# Altium schematic symbol library dungvh03-CERN_Logic.SchLib: 486 symbols (part 24 of 54)
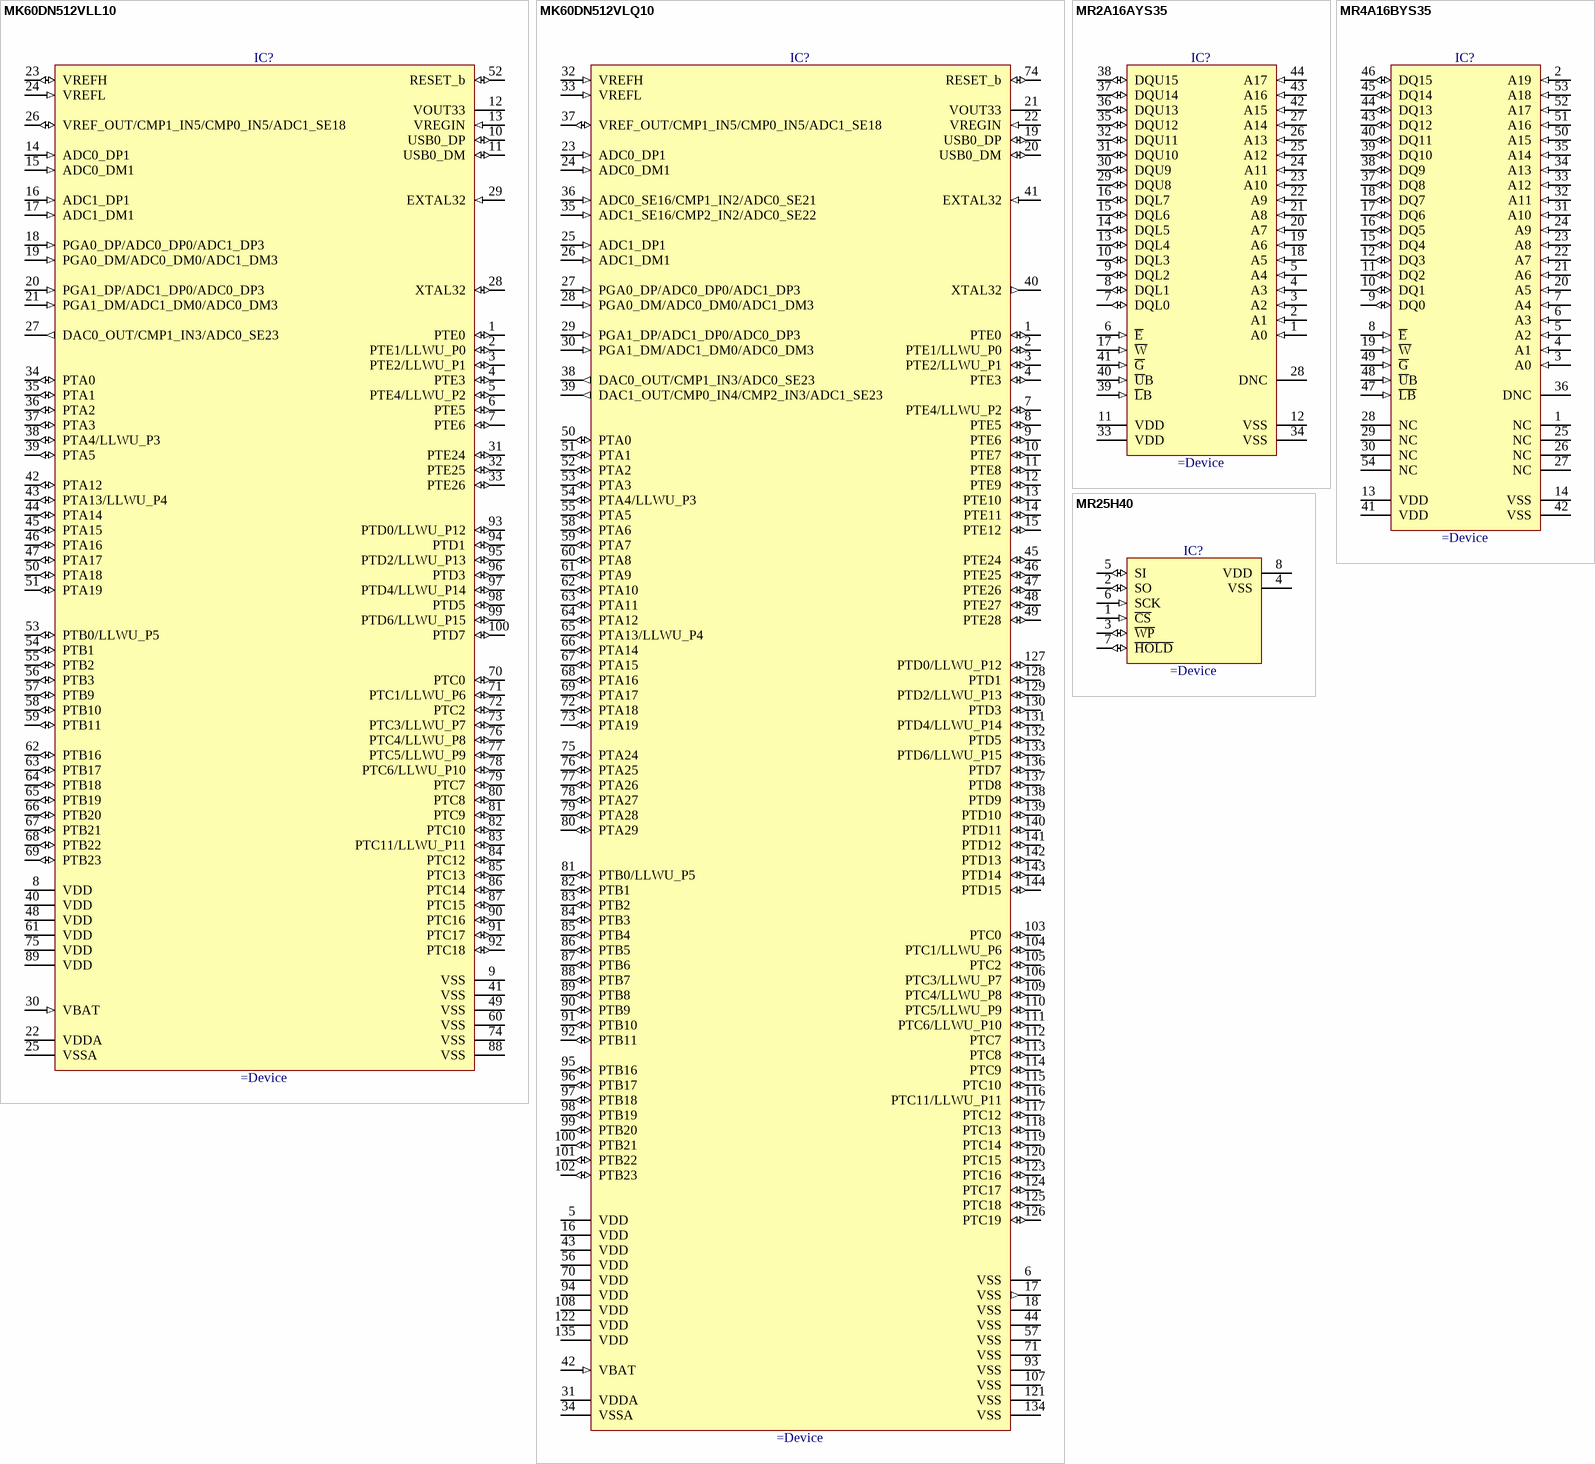
[diagram p284: symbols MK60DN512VLL10 to MR25H40]

## MR4A16BYS35
designator IC?
16Mb (1M × 16) MRAM Memory, Fast 35ns R/W Cycle, Commercial Grade
pins: 1 NC "No Connection", 2 A19 (in) "Address Input", 3 A0 (in) "Address Input", 4 A1 (in) "Address Input", 5 A2 (in) "Address Input", 6 A3 (in) "Address Input", 7 A4 (in) "Address Input", 8 ~{E} (in) "Chip Enable", 9 DQ0 (io) "Data I/O", 10 DQ1 (io) "Data I/O", 11 DQ2 (io) "Data I/O", 12 DQ3 (io) "Data I/O", 13 VDD (power) "Power Supply", 14 VSS (power) "Ground", 15 DQ4 (io) "Data I/O", 16 DQ5 (io) "Data I/O", 17 DQ6 (io) "Data I/O", 18 DQ7 (io) "Data I/O", 19 ~{W} (in) "Write Enable", 20 A5 (in) "Address Input", 21 A6 (in) "Address Input", 22 A7 (in) "Address Input", 23 A8 (in) "Address Input", 24 A9 (in) "Address Input", 25 NC "No Connection", 26 NC "No Connection", 27 NC "No Connection", 28 NC "No Connection", 29 NC "No Connection", 30 NC "No Connection", 31 A10 (in) "Address Input", 32 A11 (in) "Address Input", 33 A12 (in) "Address Input", 34 A13 (in) "Address Input", 35 A14 (in) "Address Input", 36 DNC "Do Not Connect", 37 DQ8 (io) "Data I/O", 38 DQ9 (io) "Data I/O", 39 DQ10 (io) "Data I/O", 40 DQ11 (io) "Data I/O", 41 VDD (power) "Power Supply", 42 VSS (power) "Ground", 43 DQ12 (io) "Data I/O", 44 DQ13 (io) "Data I/O", 45 DQ14 (io) "Data I/O", 46 DQ15 (io) "Data I/O", 47 ~{LB} (in) "Lower Byte Enable", 48 ~{U}B (in) "Upper Byte Enable", 49 ~{G} (in) "Output Enable", 50 A15 (in) "Address Input", 51 A16 (in) "Address Input", 52 A17 (in) "Address Input", 53 A18 (in) "Address Input", 54 NC "No Connection"

## MR25H40
designator IC?
40MHz/25ns tSCK (Industrial, Extended and AEC-Q100 Grade 1 Temp Range) 4Mb SPI Interface MRAM
pins: 1 ~{CS} (in), 2 SO (io), 3 ~{WP} (io), 4 VSS (power), 5 SI (io), 6 SCK (in), 7 ~{HOLD} (io), 8 VDD (power)

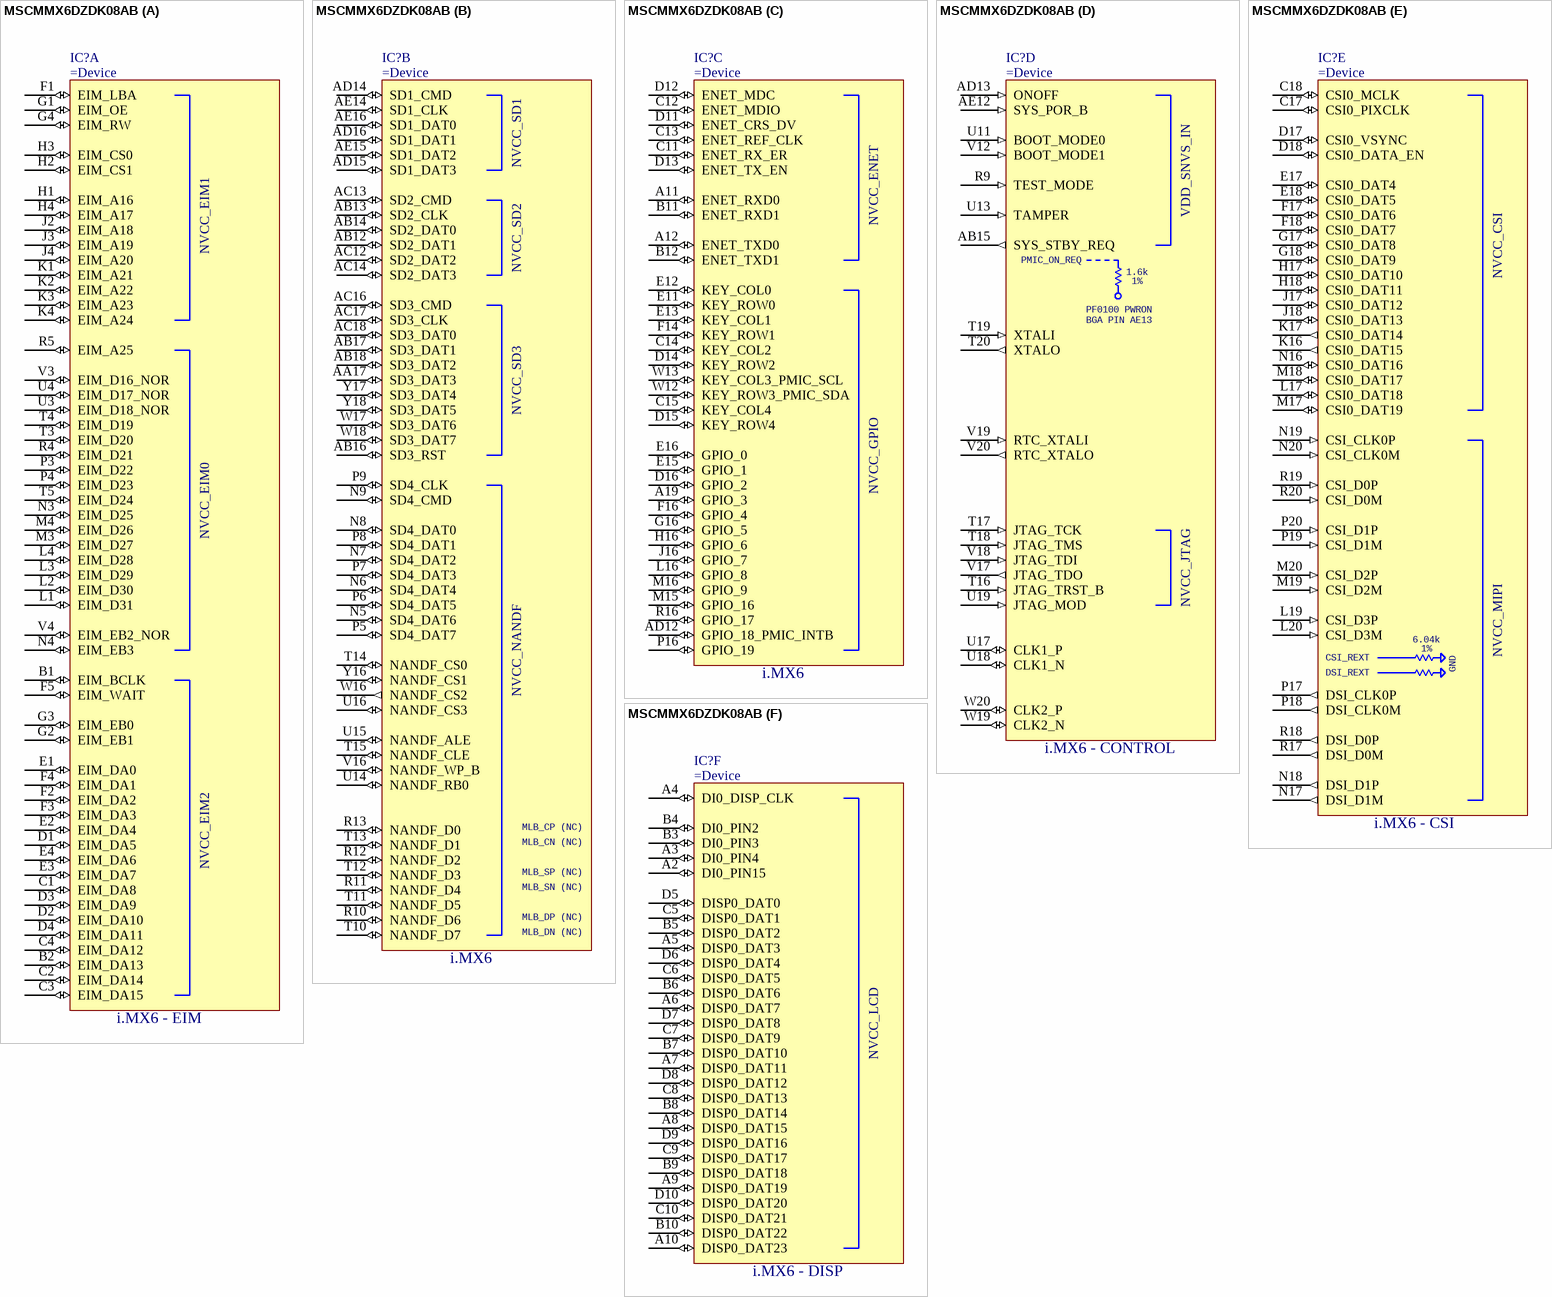
[diagram p102: symbol MSCMMX6DZDK08AB]

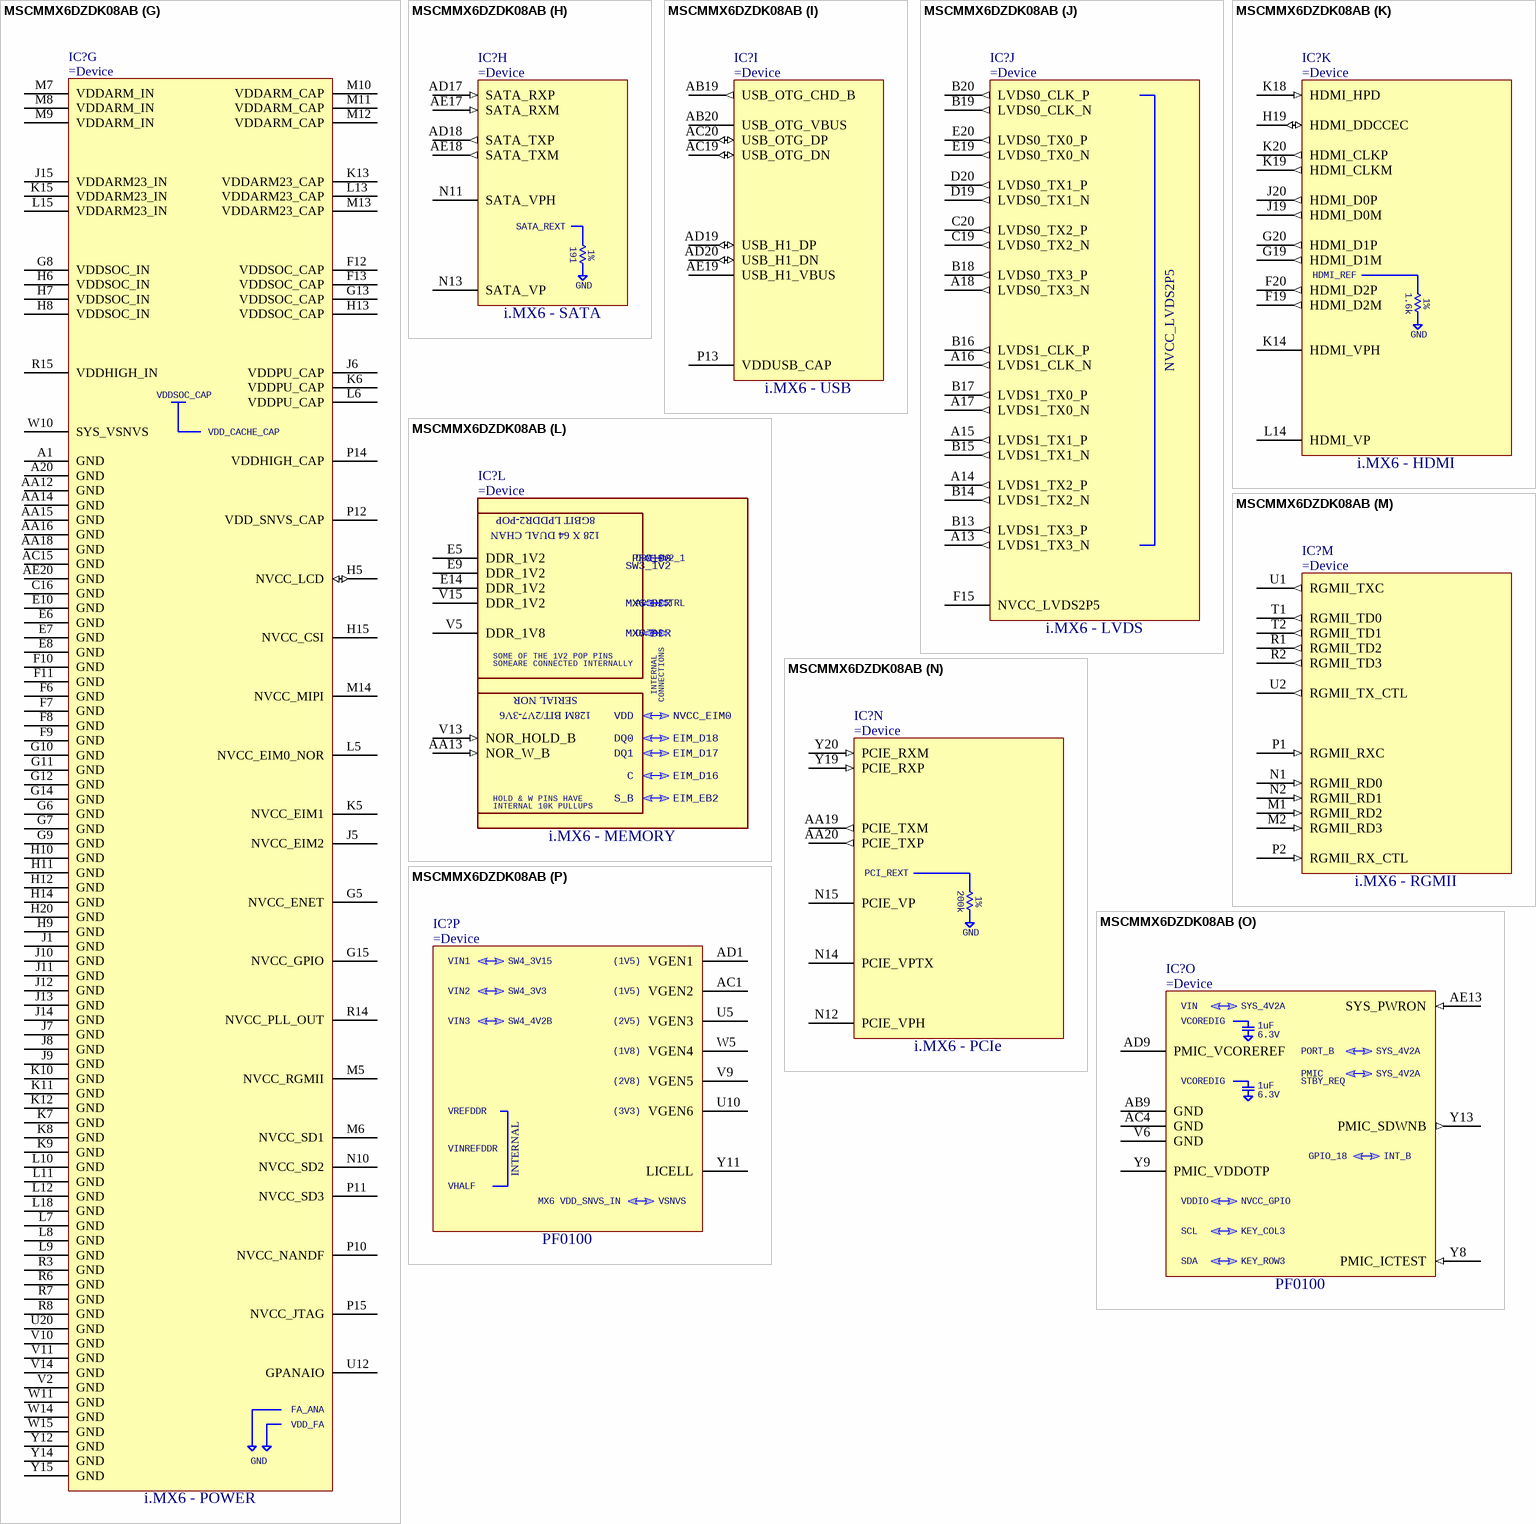
[diagram p103: symbol MSCMMX6DZDK08AB]

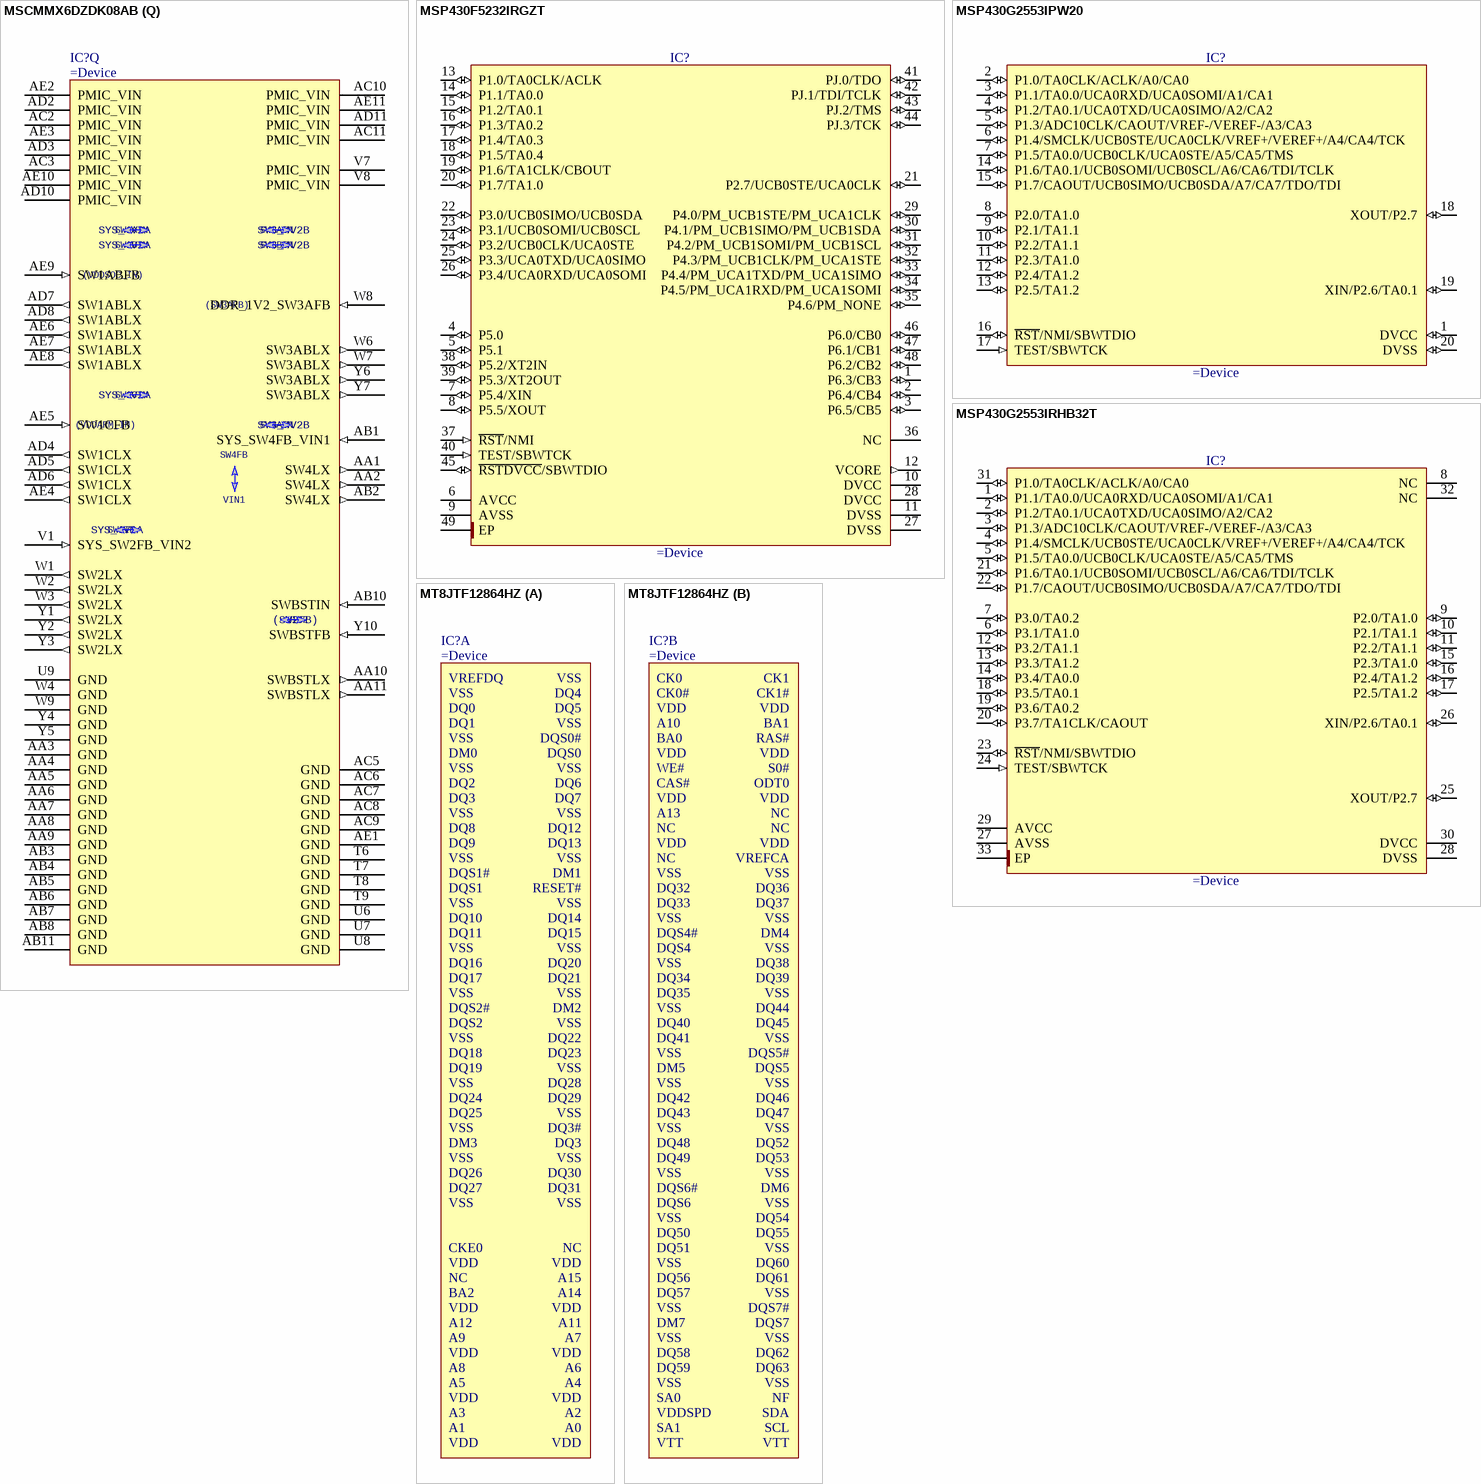
[diagram p104: symbols MSCMMX6DZDK08AB to MT8JTF12864HZ]

## MSCMMX6DZDK08AB
designator IC?
SCM-i.MX 6Dual processors Based on ARM® Cortex®-A9 MPCore Platform (LPDDR2 - PoP Footprint Version)
part A pins: B1 EIM_BCLK (io), B2 EIM_DA13 (io), C1 EIM_DA8 (io), C2 EIM_DA14 (io), C3 EIM_DA15 (io), C4 EIM_DA12 (io), D1 EIM_DA5 (io), D2 EIM_DA10 (io), D3 EIM_DA9 (io), D4 EIM_DA11 (io), E1 EIM_DA0 (io), E2 EIM_DA4 (io), E3 EIM_DA7 (io), E4 EIM_DA6 (io), F1 EIM_LBA (io), F2 EIM_DA2 (io), F3 EIM_DA3 (io), F4 EIM_DA1 (io), F5 EIM_WAIT (io), G1 EIM_OE (io), G2 EIM_EB1 (io), G3 EIM_EB0 (io), G4 EIM_RW (io), H1 EIM_A16 (io), H2 EIM_CS1 (io), H3 EIM_CS0 (io), H4 EIM_A17 (io), J2 EIM_A18 (io), J3 EIM_A19 (io), J4 EIM_A20 (io), K1 EIM_A21 (io), K2 EIM_A22 (io), K3 EIM_A23 (io), K4 EIM_A24 (io), L1 EIM_D31 (io), L2 EIM_D30 (io), L3 EIM_D29 (io), L4 EIM_D28 (io), M3 EIM_D27 (io), M4 EIM_D26 (io), N3 EIM_D25 (io), N4 EIM_EB3 (io), P3 EIM_D22 (io), P4 EIM_D23 (io), R4 EIM_D21 (io), R5 EIM_A25 (io), T3 EIM_D20 (io), T4 EIM_D19 (io), T5 EIM_D24 (io), U3 EIM_D18_NOR (io), U4 EIM_D17_NOR (io), V3 EIM_D16_NOR (io), V4 EIM_EB2_NOR (io)
part B pins: AA17 SD3_DAT3 (io), AB12 SD2_DAT1 (io), AB13 SD2_CLK (io), AB14 SD2_DAT0 (io), AB16 SD3_RST (io), AB17 SD3_DAT1 (io), AB18 SD3_DAT2 (io), AC12 SD2_DAT2 (io), AC13 SD2_CMD (io), AC14 SD2_DAT3 (io), AC16 SD3_CMD (io), AC17 SD3_CLK (io), AC18 SD3_DAT0 (io), AD14 SD1_CMD (io), AD15 SD1_DAT3 (io), AD16 SD1_DAT1 (io), AE14 SD1_CLK (io), AE15 SD1_DAT2 (io), AE16 SD1_DAT0 (io), N5 SD4_DAT6 (io), N6 SD4_DAT4 (io), N7 SD4_DAT2 (io), N8 SD4_DAT0 (io), N9 SD4_CMD (io), P5 SD4_DAT7 (io), P6 SD4_DAT5 (io), P7 SD4_DAT3 (io), P8 SD4_DAT1 (io), P9 SD4_CLK (io), R10 NANDF_D6 (io), R11 NANDF_D4 (io), R12 NANDF_D2 (io), R13 NANDF_D0 (io), T10 NANDF_D7 (io), T11 NANDF_D5 (io), T12 NANDF_D3 (io), T13 NANDF_D1 (io), T14 NANDF_CS0 (io), T15 NANDF_CLE (io), U14 NANDF_RB0 (io), U15 NANDF_ALE (io), U16 NANDF_CS3 (io), V16 NANDF_WP_B (io), W16 NANDF_CS2 (out), W17 SD3_DAT6 (io), W18 SD3_DAT7 (io), Y16 NANDF_CS1 (io), Y17 SD3_DAT4 (io), Y18 SD3_DAT5 (io)
part C pins: A11 ENET_RXD0 (io), A12 ENET_TXD0 (io), A19 GPIO_3 (io), AD12 GPIO_18_PMIC_INTB (io), B11 ENET_RXD1 (io), B12 ENET_TXD1 (io), C11 ENET_RX_ER (io), C12 ENET_MDIO (io), C13 ENET_REF_CLK (io), C14 KEY_COL2 (io), C15 KEY_COL4 (io), D11 ENET_CRS_DV (io), D12 ENET_MDC (io), D13 ENET_TX_EN (io), D14 KEY_ROW2 (io), D15 KEY_ROW4 (io), D16 GPIO_2 (io), E11 KEY_ROW0 (io), E12 KEY_COL0 (io), E13 KEY_COL1 (io), E15 GPIO_1 (io), E16 GPIO_0 (io), F14 KEY_ROW1 (io), F16 GPIO_4 (io), G16 GPIO_5 (io), H16 GPIO_6 (io), J16 GPIO_7 (io), L16 GPIO_8 (io), M15 GPIO_16 (io), M16 GPIO_9 (io), P16 GPIO_19 (io), R16 GPIO_17 (io), W12 KEY_ROW3_PMIC_SDA (io), W13 KEY_COL3_PMIC_SCL (io)
part D pins: AB15 SYS_STBY_REQ (out), AD13 ONOFF (in), AE12 SYS_POR_B (in), R9 TEST_MODE (in), T16 JTAG_TRST_B (in), T17 JTAG_TCK (in), T18 JTAG_TMS (in), T19 XTALI (in), T20 XTALO (out), U11 BOOT_MODE0 (in), U13 TAMPER (in), U17 CLK1_P (io), U18 CLK1_N (io), U19 JTAG_MOD (in), V12 BOOT_MODE1 (in), V17 JTAG_TDO (out), V18 JTAG_TDI (in), V19 RTC_XTALI (in), V20 RTC_XTALO (out), W19 CLK2_N (io), W20 CLK2_P (io)
part E pins: C17 CSI0_PIXCLK (io), C18 CSI0_MCLK (io), D17 CSI0_VSYNC (io), D18 CSI0_DATA_EN (io), E17 CSI0_DAT4 (io), E18 CSI0_DAT5 (io), F17 CSI0_DAT6 (io), F18 CSI0_DAT7 (io), G17 CSI0_DAT8 (io), G18 CSI0_DAT9 (io), H17 CSI0_DAT10 (io), H18 CSI0_DAT11 (io), J17 CSI0_DAT12 (io), J18 CSI0_DAT13 (io), K16 CSI0_DAT15 (out), K17 CSI0_DAT14 (out), L17 CSI0_DAT18 (io), L19 CSI_D3P (in), L20 CSI_D3M (in), M17 CSI0_DAT19 (io), M18 CSI0_DAT17 (io), M19 CSI_D2M (in), M20 CSI_D2P (in), N16 CSI0_DAT16 (io), N17 DSI_D1M (out), N18 DSI_D1P (out), N19 CSI_CLK0P (in), N20 CSI_CLK0M (in), P17 DSI_CLK0P (out), P18 DSI_CLK0M (out), P19 CSI_D1M (in), P20 CSI_D1P (in), R17 DSI_D0M (out), R18 DSI_D0P (out), R19 CSI_D0P (in), R20 CSI_D0M (in)
part F pins: A2 DI0_PIN15 (io), A3 DI0_PIN4 (io), A4 DI0_DISP_CLK (io), A5 DISP0_DAT3 (io), A6 DISP0_DAT7 (io), A7 DISP0_DAT11 (io), A8 DISP0_DAT15 (io), A9 DISP0_DAT19 (io), A10 DISP0_DAT23 (io), B3 DI0_PIN3 (io), B4 DI0_PIN2 (io), B5 DISP0_DAT2 (io), B6 DISP0_DAT6 (io), B7 DISP0_DAT10 (io), B8 DISP0_DAT14 (io), B9 DISP0_DAT18 (io), B10 DISP0_DAT22 (io), C5 DISP0_DAT1 (io), C6 DISP0_DAT5 (io), C7 DISP0_DAT9 (io), C8 DISP0_DAT13 (io), C9 DISP0_DAT17 (io), C10 DISP0_DAT21 (io), D5 DISP0_DAT0 (io), D6 DISP0_DAT4 (io), D7 DISP0_DAT8 (io), D8 DISP0_DAT12 (io), D9 DISP0_DAT16 (io), D10 DISP0_DAT20 (io)
part G pins: A1 GND (power), A20 GND (power), AA12 GND (power), AA14 GND (power), AA15 GND (power), AA16 GND (power), AA18 GND (power), AC15 GND (power), AE20 GND (power), C16 GND (power), E6 GND (power), E7 GND (power), E8 GND (power), E10 GND (power), F6 GND (power), F7 GND (power), F8 GND (power), F9 GND (power), F10 GND (power), F11 GND (power), F12 VDDSOC_CAP (power), F13 VDDSOC_CAP (power), G5 NVCC_ENET (power), G6 GND (power), G7 GND (power), G8 VDDSOC_IN (power), G9 GND (power), G10 GND (power), G11 GND (power), G12 GND (power), G13 VDDSOC_CAP (power), G14 GND (power), G15 NVCC_GPIO (power), H5 NVCC_LCD (io), H6 VDDSOC_IN (power), H7 VDDSOC_IN (power), H8 VDDSOC_IN (power), H9 GND (power), H10 GND (power), H11 GND (power), H12 GND (power), H13 VDDSOC_CAP (power), H14 GND (power), H15 NVCC_CSI (power), H20 GND (power), J1 GND (power), J5 NVCC_EIM2 (power), J6 VDDPU_CAP (power), J7 GND (power), J8 GND (power), J9 GND (power), J10 GND (power), J11 GND (power), J12 GND (power), J13 GND (power), J14 GND (power), J15 VDDARM23_IN (power), K5 NVCC_EIM1 (power), K6 VDDPU_CAP (power), K7 GND (power), K8 GND (power), K9 GND (power), K10 GND (power), K11 GND (power), K12 GND (power), K13 VDDARM23_CAP (power), K15 VDDARM23_IN (power), L5 NVCC_EIM0_NOR (power), L6 VDDPU_CAP (power), L7 GND (power), L8 GND (power), L9 GND (power), L10 GND (power), L11 GND (power), L12 GND (power), L13 VDDARM23_CAP (power), L15 VDDARM23_IN (power), L18 GND (power), M5 NVCC_RGMII (power), M6 NVCC_SD1 (power), M7 VDDARM_IN (power), M8 VDDARM_IN (power), M9 VDDARM_IN (power), M10 VDDARM_CAP (power), M11 VDDARM_CAP (power), M12 VDDARM_CAP (power), M13 VDDARM23_CAP (power), M14 NVCC_MIPI (power), N10 NVCC_SD2 (power), P10 NVCC_NANDF (power), P11 NVCC_SD3 (power), P12 VDD_SNVS_CAP (power), P14 VDDHIGH_CAP (power), P15 NVCC_JTAG (power), R3 GND (power), R6 GND (power), R7 GND (power), R8 GND (power), R14 NVCC_PLL_OUT (power), R15 VDDHIGH_IN (power), U12 GPANAIO, U20 GND (power), V2 GND (power), V10 GND (power), V11 GND (power), V14 GND (power), W10 SYS_VSNVS (power), W11 GND (power), W14 GND (power), W15 GND (power), Y12 GND (power), Y14 GND (power), Y15 GND (power)
part H pins: AD17 SATA_RXP (in), AD18 SATA_TXP (out), AE17 SATA_RXM (in), AE18 SATA_TXM (out), N11 SATA_VPH (power), N13 SATA_VP (power)
part I pins: AB19 USB_OTG_CHD_B (out), AB20 USB_OTG_VBUS (power), AC19 USB_OTG_DN (io), AC20 USB_OTG_DP (io), AD19 USB_H1_DP (io), AD20 USB_H1_DN (io), AE19 USB_H1_VBUS (power), P13 VDDUSB_CAP (power)
part J pins: A13 LVDS1_TX3_N (out), A14 LVDS1_TX2_P (out), A15 LVDS1_TX1_P (out), A16 LVDS1_CLK_N (out), A17 LVDS1_TX0_N (out), A18 LVDS0_TX3_N (out), B13 LVDS1_TX3_P (out), B14 LVDS1_TX2_N (out), B15 LVDS1_TX1_N (out), B16 LVDS1_CLK_P (out), B17 LVDS1_TX0_P (out), B18 LVDS0_TX3_P (out), B19 LVDS0_CLK_N (out), B20 LVDS0_CLK_P (out), C19 LVDS0_TX2_N (out), C20 LVDS0_TX2_P (out), D19 LVDS0_TX1_N (out), D20 LVDS0_TX1_P (out), E19 LVDS0_TX0_N (out), E20 LVDS0_TX0_P (out), F15 NVCC_LVDS2P5 (power)
part K pins: F19 HDMI_D2M (out), F20 HDMI_D2P (out), G19 HDMI_D1M (out), G20 HDMI_D1P (out), H19 HDMI_DDCCEC (io), J19 HDMI_D0M (out), J20 HDMI_D0P (out), K14 HDMI_VPH (power), K18 HDMI_HPD (in), K19 HDMI_CLKM (out), K20 HDMI_CLKP (out), L14 HDMI_VP (power)
part L pins: AA13 NOR_W_B (in), E5 DDR_1V2 (power), E9 DDR_1V2 (power), E14 DDR_1V2 (power), V5 DDR_1V8 (power), V13 NOR_HOLD_B (in), V15 DDR_1V2 (power)
part M pins: M1 RGMII_RD2 (in), M2 RGMII_RD3 (in), N1 RGMII_RD0 (in), N2 RGMII_RD1 (in), P1 RGMII_RXC (in), P2 RGMII_RX_CTL (in), R1 RGMII_TD2 (out), R2 RGMII_TD3 (out), T1 RGMII_TD0 (out), T2 RGMII_TD1 (out), U1 RGMII_TXC (out), U2 RGMII_TX_CTL (out)
part N pins: AA19 PCIE_TXM (out), AA20 PCIE_TXP (out), N12 PCIE_VPH (power), N14 PCIE_VPTX (power), N15 PCIE_VP (power), Y19 PCIE_RXP (in), Y20 PCIE_RXM (in)
part O pins: AB9 GND (power), AC4 GND (power), AD9 PMIC_VCOREREF (power), AE13 SYS_PWRON (in), V6 GND (power), Y8 PMIC_ICTEST (in), Y9 PMIC_VDDOTP (power), Y13 PMIC_SDWNB (out)
part P pins: AC1 VGEN2 (power), AD1 VGEN1 (power), U5 VGEN3 (power), U10 VGEN6 (power), V9 VGEN5 (power), W5 VGEN4 (power), Y11 LICELL (power)
part Q pins: AA1 SW4LX (out), AA2 SW4LX (out), AA3 GND (power), AA4 GND (power), AA5 GND (power), AA6 GND (power), AA7 GND (power), AA8 GND (power), AA9 GND (power), AA10 SWBSTLX (out), AA11 SWBSTLX (out), AB1 SYS_SW4FB_VIN1 (in), AB2 SW4LX (out), AB3 GND (power), AB4 GND (power), AB5 GND (power), AB6 GND (power), AB7 GND (power), AB8 GND (power), AB10 SWBSTIN (in), AB11 GND (power), AC2 PMIC_VIN (power), AC3 PMIC_VIN (power), AC5 GND (power), AC6 GND (power), AC7 GND (power), AC8 GND (power), AC9 GND (power), AC10 PMIC_VIN (power), AC11 PMIC_VIN (power), AD2 PMIC_VIN (power), AD3 PMIC_VIN (power), AD4 SW1CLX (out), AD5 SW1CLX (out), AD6 SW1CLX (out), AD7 SW1ABLX (out), AD8 SW1ABLX (out), AD10 PMIC_VIN (power), AD11 PMIC_VIN (power), AE1 GND (power), AE2 PMIC_VIN (power), AE3 PMIC_VIN (power), AE4 SW1CLX (out), AE5 SW1CFB (in), AE6 SW1ABLX (out), AE7 SW1ABLX (out), AE8 SW1ABLX (out), AE9 SW1ABFB (in), AE10 PMIC_VIN (power), AE11 PMIC_VIN (power), T6 GND (power), T7 GND (power), T8 GND (power), T9 GND (power), U6 GND (power), U7 GND (power), U8 GND (power), U9 GND (power), V1 SYS_SW2FB_VIN2 (in), V7 PMIC_VIN (power), V8 PMIC_VIN (power), W1 SW2LX (out), W2 SW2LX (out), W3 SW2LX (out), W4 GND (power), W6 SW3ABLX (out), W7 SW3ABLX (out), W8 DDR_1V2_SW3AFB (in), W9 GND (power), Y1 SW2LX (out), Y2 SW2LX (out), Y3 SW2LX (out), Y4 GND (power), Y5 GND (power), Y6 SW3ABLX (out), Y7 SW3ABLX (out), Y10 SWBSTFB (in)
part A text: NVCC_EIM0; i.MX6 - EIM
part B text: MLB_CP (NC); MLB_CN (NC); MLB_SP (NC); MLB_SN (NC); MLB_DP (NC); MLB_DN (NC); i.MX6
part C text: i.MX6
part D text: VDD_SNVS_IN; PMIC_ON_REQ; 1.6k; 1%; PF0100 PWRON; BGA PIN AE13; i.MX6 - CONTROL
part E text: 6.04k; 1%; CSI_REXT; DSI_REXT; i.MX6 - CSI
part F text: i.MX6 - DISP
part G text: VDD_CACHE_CAP; FA_ANA; VDD_FA; i.MX6 - POWER
part H text: SATA_REXT; 191; 1%; i.MX6 - SATA
part I text: i.MX6 - USB
part J text: i.MX6 - LVDS
part K text: HDMI_REF; 1.6k; 1%; i.MX6 - HDMI
part L text: 8GBIT LPDDR2-POP; 128 X 64 DUAL CHAN; DDR_1V2_1; PF0100; SW3_1V2; ADDR/CTRL; MX6 DDR; DATA; SOME OF THE 1V2 POP PINS; SOMEARE CONNECTED INTERNALLY; INTERNAL; CONNECTIONS; SERIAL NOR; 128M BIT/2V7-3V6; VDD; NVCC_EIM0; DQ0; EIM_D18; DQ1; EIM_D17; C; EIM_D16; HOLD & W PINS HAVE; S_B; EIM_EB2; INTERNAL 10K PULLUPS; i.MX6 - MEMORY
part M text: i.MX6 - RGMII
part N text: PCI_REXT; 200k; 1%; i.MX6 - PCIe
part O text: VIN; SYS_4V2A; VCOREDIG; 1uF; 6.3V; PORT_B; PMIC; STBY_REQ; GPIO_18; INT_B; VDDIO; SCL; KEY_COL3; SDA; KEY_ROW3; PF0100
part P text: VIN1; SW4_3V15; (1V5); VIN2; SW4_3V3; VIN3; SW4_4V2B; (2V5); (1V8); (2V8); VREFDDR; (3V3); VINREFDDR; INTERNAL; VHALF; MX6 VDD_SNVS_IN; VSNVS; PF0100
part Q text: SW1AIN; SYS_4V2A; SYS_4V2B; SW3AIN; SW1BIN; SW3BIN; (VDDSOC_IN); (SW3AFB); SW1CIN; (VDDARM_IN); SW4AIN; SW4FB; VIN1; SW2IN; (SW2FB); VIN2

## MSP430F5232IRGZT
designator IC?
Mixed Signal Microcontroller, Pb-Free
pins: 1 P6.3/CB3 (io), 2 P6.4/CB4 (io), 3 P6.5/CB5 (io), 4 P5.0 (io), 5 P5.1 (io), 6 AVCC (power), 7 P5.4/XIN (io), 8 P5.5/XOUT (io), 9 AVSS (power), 10 DVCC (power), 11 DVSS (power), 12 VCORE (out), 13 P1.0/TA0CLK/ACLK (io), 14 P1.1/TA0.0 (io), 15 P1.2/TA0.1 (io), 16 P1.3/TA0.2 (io), 17 P1.4/TA0.3 (io), 18 P1.5/TA0.4 (io), 19 P1.6/TA1CLK/CBOUT (io), 20 P1.7/TA1.0 (io), 21 P2.7/UCB0STE/UCA0CLK (io), 22 P3.0/UCB0SIMO/UCB0SDA (io), 23 P3.1/UCB0SOMI/UCB0SCL (io), 24 P3.2/UCB0CLK/UCA0STE (io), 25 P3.3/UCA0TXD/UCA0SIMO (io), 26 P3.4/UCA0RXD/UCA0SOMI (io), 27 DVSS (power), 28 DVCC (power), 29 P4.0/PM_UCB1STE/PM_UCA1CLK (io), 30 P4.1/PM_UCB1SIMO/PM_UCB1SDA (io), 31 P4.2/PM_UCB1SOMI/PM_UCB1SCL (io), 32 P4.3/PM_UCB1CLK/PM_UCA1STE (io), 33 P4.4/PM_UCA1TXD/PM_UCA1SIMO (io), 34 P4.5/PM_UCA1RXD/PM_UCA1SOMI (io), 35 P4.6/PM_NONE (io), 36 NC, 37 ~{RST}/NMI (in), 38 P5.2/XT2IN (io), 39 P5.3/XT2OUT (io), 40 TEST/SBWTCK (in), 41 PJ.0/TDO (io), 42 PJ.1/TDI/TCLK (io), 43 PJ.2/TMS (io), 44 PJ.3/TCK (io), 45 ~{RSTDVCC}/SBWTDIO (io), 46 P6.0/CB0 (io), 47 P6.1/CB1 (io), 48 P6.2/CB2 (io), 49 EP (power)

## MSP430G2553IPW20
designator IC?
16Kb Flash/512Kb RAM, 16-Bit Mixed Signal Microcontroller
pins: 1 DVCC (io), 2 P1.0/TA0CLK/ACLK/A0/CA0 (io), 3 P1.1/TA0.0/UCA0RXD/UCA0SOMI/A1/CA1 (io), 4 P1.2/TA0.1/UCA0TXD/UCA0SIMO/A2/CA2 (io), 5 P1.3/ADC10CLK/CAOUT/VREF-/VEREF-/A3/CA3 (io), 6 P1.4/SMCLK/UCB0STE/UCA0CLK/VREF+/VEREF+/A4/CA4/TCK (io), 7 P1.5/TA0.0/UCB0CLK/UCA0STE/A5/CA5/TMS (io), 8 P2.0/TA1.0 (io), 9 P2.1/TA1.1 (io), 10 P2.2/TA1.1 (io), 11 P2.3/TA1.0 (io), 12 P2.4/TA1.2 (io), 13 P2.5/TA1.2 (io), 14 P1.6/TA0.1/UCB0SOMI/UCB0SCL/A6/CA6/TDI/TCLK (io), 15 P1.7/CAOUT/UCB0SIMO/UCB0SDA/A7/CA7/TDO/TDI (io), 16 ~{RST}/NMI/SBWTDIO (io), 17 TEST/SBWTCK (in), 18 XOUT/P2.7 (io), 19 XIN/P2.6/TA0.1 (io), 20 DVSS (io)

## MSP430G2553IRHB32T
designator IC?
16Kb Flash/512Kb RAM, 16-Bit Mixed Signal Microcontroller
pins: 1 P1.1/TA0.0/UCA0RXD/UCA0SOMI/A1/CA1 (io), 2 P1.2/TA0.1/UCA0TXD/UCA0SIMO/A2/CA2 (io), 3 P1.3/ADC10CLK/CAOUT/VREF-/VEREF-/A3/CA3 (io), 4 P1.4/SMCLK/UCB0STE/UCA0CLK/VREF+/VEREF+/A4/CA4/TCK (io), 5 P1.5/TA0.0/UCB0CLK/UCA0STE/A5/CA5/TMS (io), 6 P3.1/TA1.0 (io), 7 P3.0/TA0.2 (io), 8 NC, 9 P2.0/TA1.0 (io), 10 P2.1/TA1.1 (io), 11 P2.2/TA1.1 (io), 12 P3.2/TA1.1 (io), 13 P3.3/TA1.2 (io), 14 P3.4/TA0.0 (io), 15 P2.3/TA1.0 (io), 16 P2.4/TA1.2 (io), 17 P2.5/TA1.2 (io), 18 P3.5/TA0.1 (io), 19 P3.6/TA0.2 (io), 20 P3.7/TA1CLK/CAOUT (io), 21 P1.6/TA0.1/UCB0SOMI/UCB0SCL/A6/CA6/TDI/TCLK (io), 22 P1.7/CAOUT/UCB0SIMO/UCB0SDA/A7/CA7/TDO/TDI (io), 23 ~{RST}/NMI/SBWTDIO (io), 24 TEST/SBWTCK (in), 25 XOUT/P2.7 (io), 26 XIN/P2.6/TA0.1 (io), 27 AVSS (power), 28 DVSS (power), 29 AVCC (power), 30 DVCC (power), 31 P1.0/TA0CLK/ACLK/A0/CA0 (io), 32 NC, 33 EP (power)

## MT8JTF12864HZ
designator IC?
1Gb (128Mx64) SODIMM 204-Pin DDR3 SDRAM Module
part A text: VREFDQ; VSS; DQ4; DQ0; DQ5; DQ1; DQS0#; DM0; DQS0; DQ2; DQ6; DQ3; DQ7; DQ8; DQ12; DQ9; DQ13; DQS1#; DM1; DQS1; RESET#; DQ10; DQ14; DQ11; DQ15; DQ16; DQ20; DQ17; DQ21; DQS2#; DM2; DQS2; DQ22; DQ18; DQ23; DQ19; DQ28; DQ24; DQ29; DQ25; DQ3#; DM3; DQ26; DQ30; DQ27; DQ31; CKE0; NC; VDD; A15; BA2; A14; A12; A11; A9; A7; A8; A6; A5; A4; A3; A2; A1; A0
part B text: CK0; CK1; CK0#; CK1#; VDD; A10; BA1; BA0; RAS#; WE#; S0#; CAS#; ODT0; A13; NC; VREFCA; VSS; DQ32; DQ36; DQ33; DQ37; DQS4#; DM4; DQS4; DQ38; DQ34; DQ39; DQ35; DQ44; DQ40; DQ45; DQ41; DQS5#; DM5; DQS5; DQ42; DQ46; DQ43; DQ47; DQ48; DQ52; DQ49; DQ53; DQS6#; DM6; DQS6; DQ54; DQ50; DQ55; DQ51; DQ60; DQ56; DQ61; DQ57; DQS7#; DM7; DQS7; DQ58; DQ62; DQ59; DQ63; SA0; NF; VDDSPD; SDA; SA1; SCL; VTT

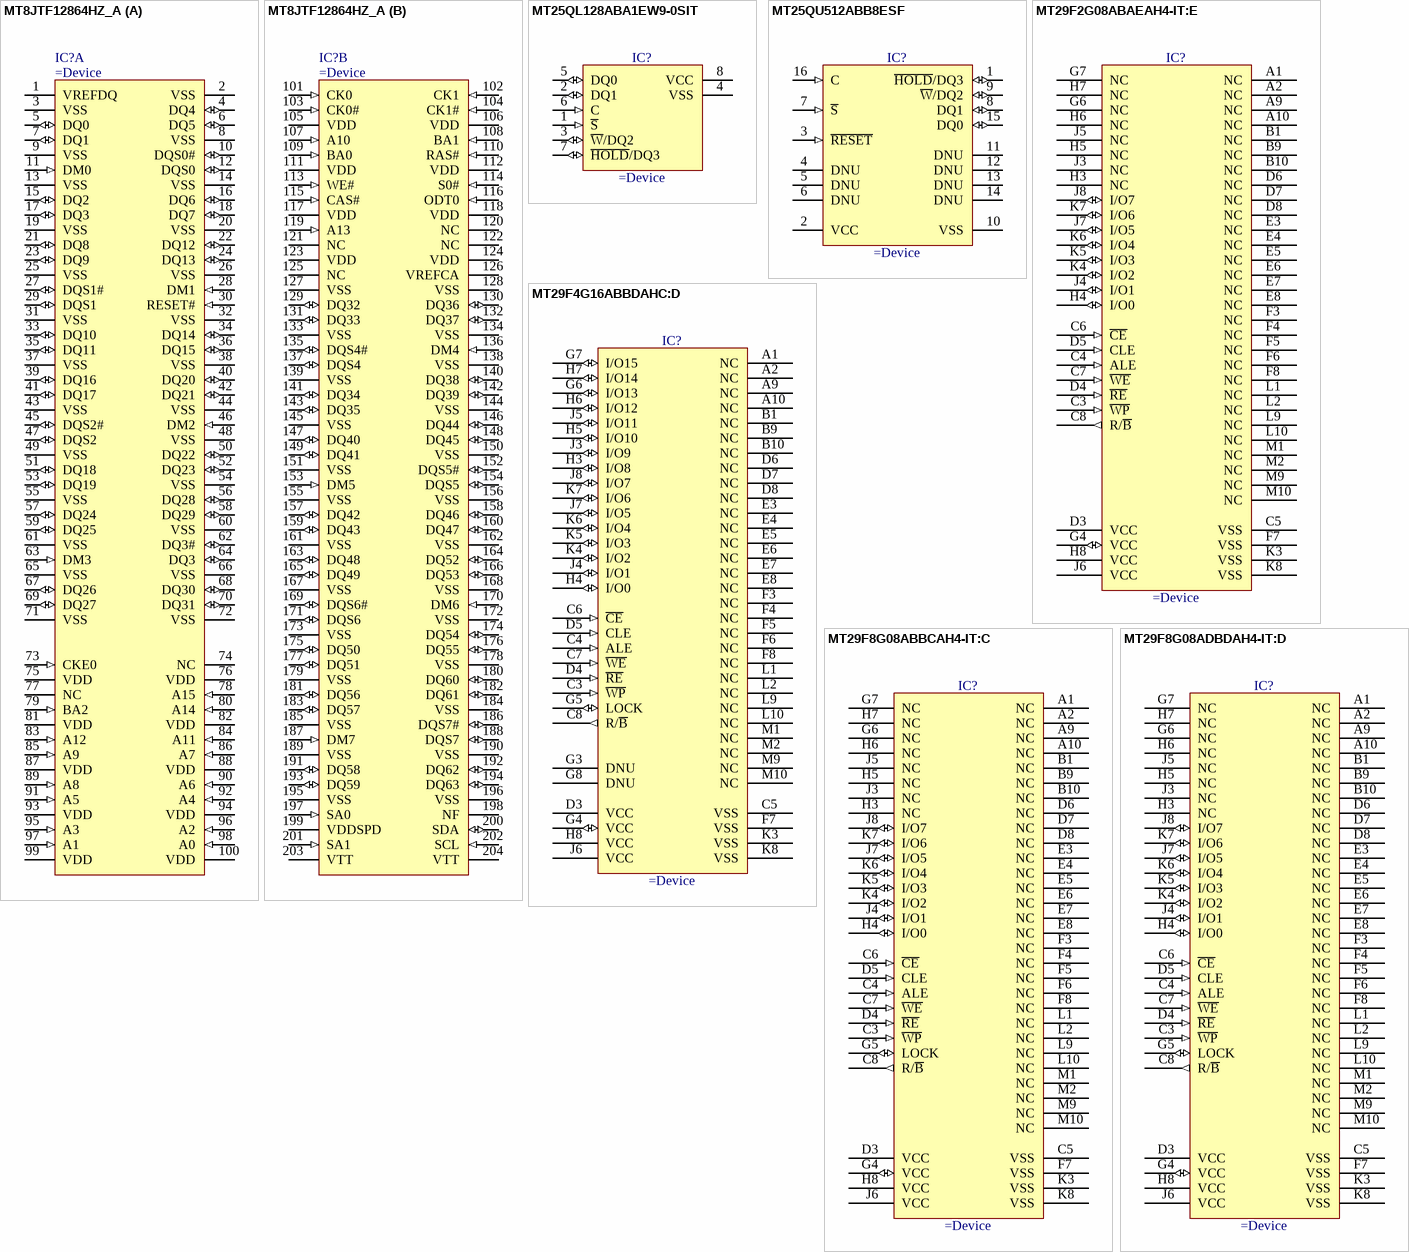
[diagram p105: symbols MT8JTF12864HZ_A to MT29F8G08ADBDAH4-IT:D]

## MT8JTF12864HZ_A
designator IC?
1Gb (128Mx64) SODIMM 204-Pin DDR3 SDRAM Module
part A pins: 1 VREFDQ (power), 2 VSS (power), 3 VSS (power), 4 DQ4 (io), 5 DQ0 (io), 6 DQ5 (io), 7 DQ1 (io), 8 VSS (power), 9 VSS (power), 10 DQS0# (io), 11 DM0 (in), 12 DQS0 (io), 13 VSS (power), 14 VSS (power), 15 DQ2 (io), 16 DQ6 (io), 17 DQ3 (io), 18 DQ7 (io), 19 VSS (power), 20 VSS (power), 21 DQ8 (io), 22 DQ12 (io), 23 DQ9 (io), 24 DQ13 (io), 25 VSS (power), 26 VSS (power), 27 DQS1# (io), 28 DM1 (in), 29 DQS1 (io), 30 RESET# (in), 31 VSS (power), 32 VSS (power), 33 DQ10 (io), 34 DQ14 (io), 35 DQ11 (io), 36 DQ15 (io), 37 VSS (power), 38 VSS (power), 39 DQ16 (io), 40 DQ20 (io), 41 DQ17 (io), 42 DQ21 (io), 43 VSS (power), 44 VSS (power), 45 DQS2# (io), 46 DM2 (in), 47 DQS2 (io), 48 VSS (power), 49 VSS (power), 50 DQ22 (io), 51 DQ18 (io), 52 DQ23 (io), 53 DQ19 (io), 54 VSS (power), 55 VSS (power), 56 DQ28 (io), 57 DQ24 (io), 58 DQ29 (io), 59 DQ25 (io), 60 VSS (power), 61 VSS (power), 62 DQ3# (io), 63 DM3 (in), 64 DQ3 (io), 65 VSS (power), 66 VSS (power), 67 DQ26 (io), 68 DQ30 (io), 69 DQ27 (io), 70 DQ31 (io), 71 VSS (power), 72 VSS (power), 73 CKE0 (in), 74 NC, 75 VDD (power), 76 VDD (power), 77 NC, 78 A15 (in), 79 BA2 (in), 80 A14 (in), 81 VDD (power), 82 VDD (power), 83 A12 (in), 84 A11 (in), 85 A9 (in), 86 A7 (in), 87 VDD (power), 88 VDD (power), 89 A8 (in), 90 A6 (in), 91 A5 (in), 92 A4 (in), 93 VDD (power), 94 VDD (power), 95 A3 (in), 96 A2 (in), 97 A1 (in), 98 A0 (in), 99 VDD (power), 100 VDD (power)
part B pins: 101 CK0 (in), 102 CK1 (in), 103 CK0# (in), 104 CK1# (in), 105 VDD (power), 106 VDD (power), 107 A10 (in), 108 BA1 (in), 109 BA0 (in), 110 RAS# (in), 111 VDD (power), 112 VDD (power), 113 WE# (in), 114 S0# (in), 115 CAS# (in), 116 ODT0 (in), 117 VDD (power), 118 VDD (power), 119 A13 (in), 120 NC, 121 NC, 122 NC, 123 VDD (power), 124 VDD (power), 125 NC, 126 VREFCA (power), 127 VSS (power), 128 VSS (power), 129 DQ32 (io), 130 DQ36 (io), 131 DQ33 (io), 132 DQ37 (io), 133 VSS (power), 134 VSS (power), 135 DQS4# (io), 136 DM4 (in), 137 DQS4 (io), 138 VSS (power), 139 VSS (power), 140 DQ38 (io), 141 DQ34 (io), 142 DQ39 (io), 143 DQ35 (io), 144 VSS (power), 145 VSS (power), 146 DQ44 (io), 147 DQ40 (io), 148 DQ45 (io), 149 DQ41 (io), 150 VSS (power), 151 VSS (power), 152 DQS5# (io), 153 DM5 (in), 154 DQS5 (io), 155 VSS (power), 156 VSS (power), 157 DQ42 (io), 158 DQ46 (io), 159 DQ43 (io), 160 DQ47 (io), 161 VSS (power), 162 VSS (power), 163 DQ48 (io), 164 DQ52 (io), 165 DQ49 (io), 166 DQ53 (io), 167 VSS (power), 168 VSS (power), 169 DQS6# (io), 170 DM6 (in), 171 DQS6 (io), 172 VSS (power), 173 VSS (power), 174 DQ54 (io), 175 DQ50 (io), 176 DQ55 (io), 177 DQ51 (io), 178 VSS (power), 179 VSS (power), 180 DQ60 (io), 181 DQ56 (io), 182 DQ61 (io), 183 DQ57 (io), 184 VSS (power), 185 VSS (power), 186 DQS7# (io), 187 DM7 (in), 188 DQS7 (io), 189 VSS (power), 190 VSS (power), 191 DQ58 (io), 192 DQ62 (io), 193 DQ59 (io), 194 DQ63 (io), 195 VSS (power), 196 VSS (power), 197 SA0 (in), 198 NF, 199 VDDSPD (power), 200 SDA (io), 201 SA1 (in), 202 SCL (in), 203 VTT (power), 204 VTT (power)

## MT25QL128ABA1EW9-0SIT
designator IC?
128Mb (16MB), 1.8V, Multiple I/O Serial Flash Memory with Hold# Pins
pins: 1 ~{S} (in), 2 DQ1 (io), 3 ~{W}/DQ2 (io), 4 VSS (power), 5 DQ0 (io), 6 C (in), 7 ~{HOLD}/DQ3 (io), 8 VCC (power)

## MT25QU512ABB8ESF
designator IC?
512Mbit (64MB), 1.8V, Multiple I/O Serial Flash Memory, Reset# & Hold# Pins
pins: 1 ~{HOLD}/DQ3 (io), 2 VCC (power), 3 ~{RESET} (in), 4 DNU, 5 DNU, 6 DNU, 7 ~{S} (in), 8 DQ1 (io), 9 ~{W}/DQ2 (io), 10 VSS (power), 11 DNU, 12 DNU, 13 DNU, 14 DNU, 15 DQ0 (io), 16 C (in)

## MT29F2G08ABAEAH4-IT:E
designator IC?
2Gb: 8-Bit, 3.3V NAND Flash
pins: A1 NC, A2 NC, A9 NC, A10 NC, B1 NC, B9 NC, B10 NC, C3 ~{WP} (in), C4 ALE (in), C5 VSS (power), C6 ~{CE} (in), C7 ~{WE} (in), C8 R/~{B} (out), D3 VCC (power), D4 ~{RE} (in), D5 CLE (in), D6 NC, D7 NC, D8 NC, E3 NC, E4 NC, E5 NC, E6 NC, E7 NC, E8 NC, F3 NC, F4 NC, F5 NC, F6 NC, F7 VSS (power), F8 NC, G4 VCC (io), G6 NC, G7 NC, H3 NC, H4 I/O0 (io), H5 NC, H6 NC, H7 NC, H8 VCC (power), J3 NC, J4 I/O1 (io), J5 NC, J6 VCC (power), J7 I/O5 (io), J8 I/O7 (io), K3 VSS (power), K4 I/O2 (io), K5 I/O3 (io), K6 I/O4 (io), K7 I/O6 (io), K8 VSS (power), L1 NC, L2 NC, L9 NC, L10 NC, M1 NC, M2 NC, M9 NC, M10 NC

## MT29F4G16ABBDAHC:D
designator IC?
4Gb, 16-Bit, 1.8V, NAND Flash
pins: A1 NC, A2 NC, A9 NC, A10 NC, B1 NC, B9 NC, B10 NC, C3 ~{WP} (in), C4 ALE (in), C5 VSS (power), C6 ~{CE} (in), C7 ~{WE} (in), C8 R/~{B} (out), D3 VCC (power), D4 ~{RE} (in), D5 CLE (in), D6 NC, D7 NC, D8 NC, E3 NC, E4 NC, E5 NC, E6 NC, E7 NC, E8 NC, F3 NC, F4 NC, F5 NC, F6 NC, F7 VSS (power), F8 NC, G3 DNU, G4 VCC (io), G5 LOCK (io), G6 I/O13 (io), G7 I/O15 (io), G8 DNU, H3 I/O8 (io), H4 I/O0 (io), H5 I/O10 (io), H6 I/O12 (io), H7 I/O14 (io), H8 VCC (power), J3 I/O9 (io), J4 I/O1 (io), J5 I/O11 (io), J6 VCC (power), J7 I/O5 (io), J8 I/O7 (io), K3 VSS (power), K4 I/O2 (io), K5 I/O3 (io), K6 I/O4 (io), K7 I/O6 (io), K8 VSS (power), L1 NC, L2 NC, L9 NC, L10 NC, M1 NC, M2 NC, M9 NC, M10 NC

## MT29F8G08ABBCAH4-IT:C
designator IC?
8Gb, 8-Bit, 1.8V, NAND Flash
pins: A1 NC, A2 NC, A9 NC, A10 NC, B1 NC, B9 NC, B10 NC, C3 ~{WP} (in), C4 ALE (in), C5 VSS (power), C6 ~{CE} (in), C7 ~{WE} (in), C8 R/~{B} (out), D3 VCC (power), D4 ~{RE} (in), D5 CLE (in), D6 NC, D7 NC, D8 NC, E3 NC, E4 NC, E5 NC, E6 NC, E7 NC, E8 NC, F3 NC, F4 NC, F5 NC, F6 NC, F7 VSS (power), F8 NC, G4 VCC (io), G5 LOCK (io), G6 NC, G7 NC, H3 NC, H4 I/O0 (io), H5 NC, H6 NC, H7 NC, H8 VCC (power), J3 NC, J4 I/O1 (io), J5 NC, J6 VCC (power), J7 I/O5 (io), J8 I/O7 (io), K3 VSS (power), K4 I/O2 (io), K5 I/O3 (io), K6 I/O4 (io), K7 I/O6 (io), K8 VSS (power), L1 NC, L2 NC, L9 NC, L10 NC, M1 NC, M2 NC, M9 NC, M10 NC

## MT29F8G08ADBDAH4-IT:D
designator IC?
8Gb, 8-Bit, 1.8V, NAND Flash, Industrial Grade (–40°C to +85°C)
pins: A1 NC, A2 NC, A9 NC, A10 NC, B1 NC, B9 NC, B10 NC, C3 ~{WP} (in), C4 ALE (in), C5 VSS (power), C6 ~{CE} (in), C7 ~{WE} (in), C8 R/~{B} (out), D3 VCC (power), D4 ~{RE} (in), D5 CLE (in), D6 NC, D7 NC, D8 NC, E3 NC, E4 NC, E5 NC, E6 NC, E7 NC, E8 NC, F3 NC, F4 NC, F5 NC, F6 NC, F7 VSS (power), F8 NC, G4 VCC (io), G5 LOCK (io), G6 NC, G7 NC, H3 NC, H4 I/O0 (io), H5 NC, H6 NC, H7 NC, H8 VCC (power), J3 NC, J4 I/O1 (io), J5 NC, J6 VCC (power), J7 I/O5 (io), J8 I/O7 (io), K3 VSS (power), K4 I/O2 (io), K5 I/O3 (io), K6 I/O4 (io), K7 I/O6 (io), K8 VSS (power), L1 NC, L2 NC, L9 NC, L10 NC, M1 NC, M2 NC, M9 NC, M10 NC

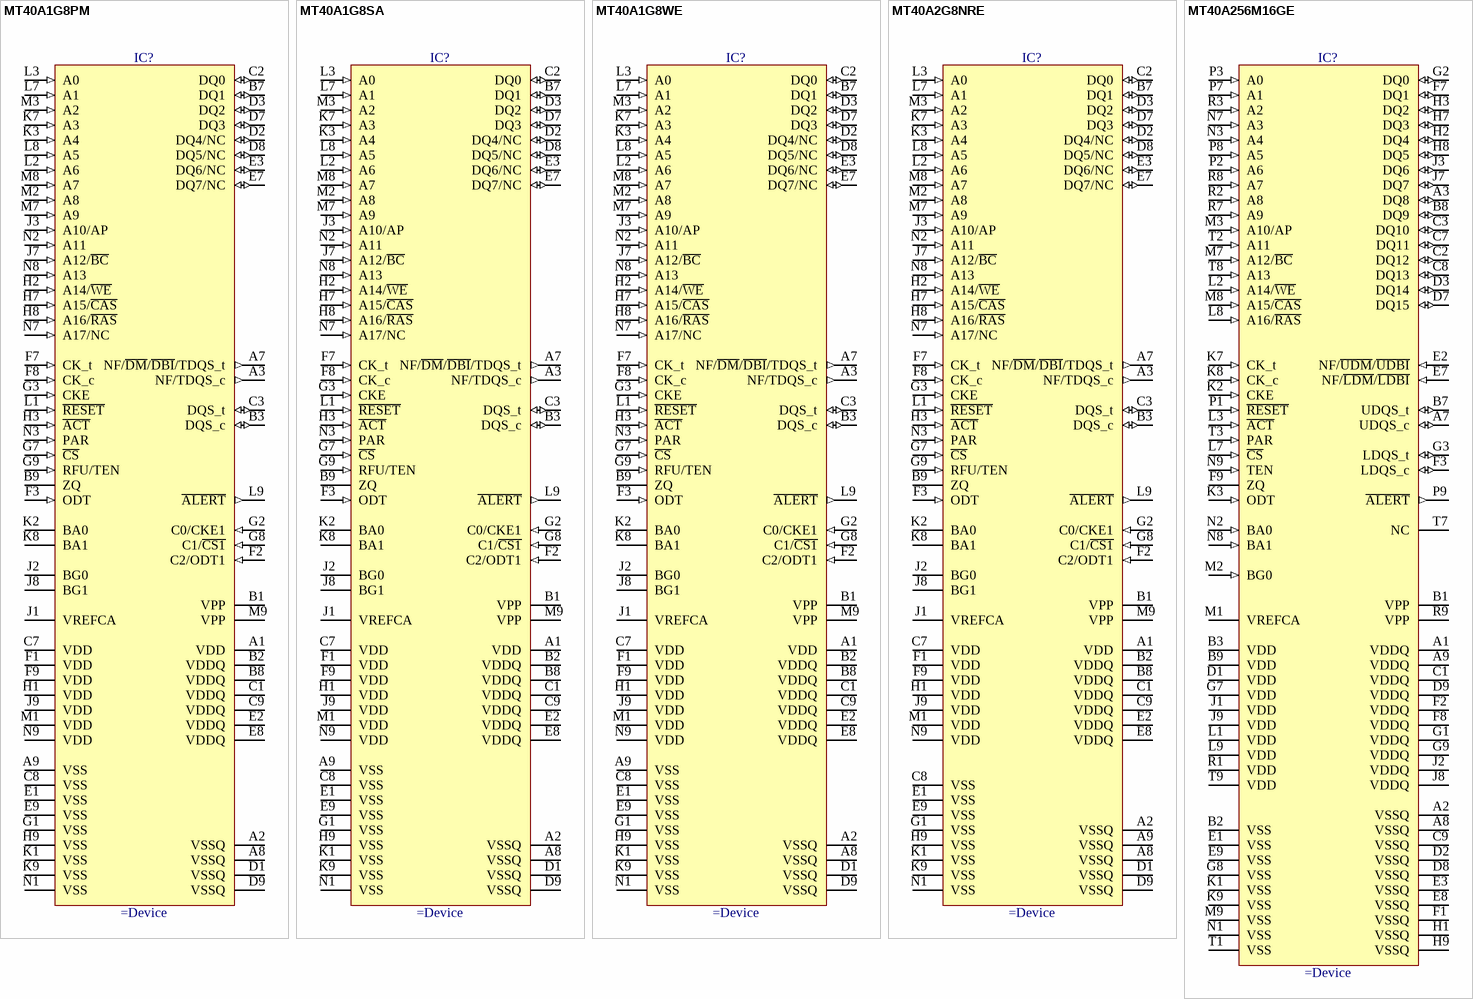
[diagram p106: symbols MT40A1G8PM to MT40A256M16GE]

## MT40A1G8PM
designator IC?
+2.5V, 8Gb (1G x 8 x 16 Banks) DDR4 SDRAM
pins: A1 VDD (power), A2 VSSQ (power), A3 NF/TDQS_c (out), A7 NF/~{DM}/~{DBI}/TDQS_t (out), A8 VSSQ (power), A9 VSS (power), B1 VPP (power), B2 VDDQ (power), B3 DQS_c (io), B7 DQ1 (io), B8 VDDQ (power), B9 ZQ (power), C1 VDDQ (power), C2 DQ0 (io), C3 DQS_t (io), C7 VDD (power), C8 VSS (power), C9 VDDQ (power), D1 VSSQ (power), D2 DQ4/NC (io), D3 DQ2 (io), D7 DQ3 (io), D8 DQ5/NC (io), D9 VSSQ (power), E1 VSS (power), E2 VDDQ (power), E3 DQ6/NC (io), E7 DQ7/NC (io), E8 VDDQ (power), E9 VSS (power), F1 VDD (power), F2 C2/ODT1 (in), F3 ODT (in), F7 CK_t (in), F8 CK_c (in), F9 VDD (power), G1 VSS (power), G2 C0/CKE1 (in), G3 CKE (in), G7 ~{CS} (in), G8 C1/~{CS1} (in), G9 RFU/TEN (in), H1 VDD (power), H2 A14/~{WE} (in), H3 ~{ACT} (in), H7 A15/~{CAS} (in), H8 A16/~{RAS} (in), H9 VSS (power), J1 VREFCA (power), J2 BG0 (power), J3 A10/AP (in), J7 A12/~{BC} (in), J8 BG1 (power), J9 VDD (power), K1 VSS (power), K2 BA0 (power), K3 A4 (in), K7 A3 (in), K8 BA1 (power), K9 VSS (power), L1 ~{RESET} (in), L2 A6 (in), L3 A0 (in), L7 A1 (in), L8 A5 (in), L9 ~{ALERT} (out), M1 VDD (power), M2 A8 (in), M3 A2 (in), M7 A9 (in), M8 A7 (in), M9 VPP (power), N1 VSS (power), N2 A11 (in), N3 PAR (in), N7 A17/NC (in), N8 A13 (in), N9 VDD (power)

## MT40A1G8SA
designator IC?
+1.2V, 8Gb (1Gig x 8) DDR4 SDRAM
pins: A1 VDD (power), A2 VSSQ (power), A3 NF/TDQS_c (out), A7 NF/~{DM}/~{DBI}/TDQS_t (out), A8 VSSQ (power), A9 VSS (power), B1 VPP (power), B2 VDDQ (power), B3 DQS_c (io), B7 DQ1 (io), B8 VDDQ (power), B9 ZQ (power), C1 VDDQ (power), C2 DQ0 (io), C3 DQS_t (io), C7 VDD (power), C8 VSS (power), C9 VDDQ (power), D1 VSSQ (power), D2 DQ4/NC (io), D3 DQ2 (io), D7 DQ3 (io), D8 DQ5/NC (io), D9 VSSQ (power), E1 VSS (power), E2 VDDQ (power), E3 DQ6/NC (io), E7 DQ7/NC (io), E8 VDDQ (power), E9 VSS (power), F1 VDD (power), F2 C2/ODT1 (in), F3 ODT (in), F7 CK_t (in), F8 CK_c (in), F9 VDD (power), G1 VSS (power), G2 C0/CKE1 (in), G3 CKE (in), G7 ~{CS} (in), G8 C1/~{CS1} (in), G9 RFU/TEN (in), H1 VDD (power), H2 A14/~{WE} (in), H3 ~{ACT} (in), H7 A15/~{CAS} (in), H8 A16/~{RAS} (in), H9 VSS (power), J1 VREFCA (power), J2 BG0 (power), J3 A10/AP (in), J7 A12/~{BC} (in), J8 BG1 (power), J9 VDD (power), K1 VSS (power), K2 BA0 (power), K3 A4 (in), K7 A3 (in), K8 BA1 (power), K9 VSS (power), L1 ~{RESET} (in), L2 A6 (in), L3 A0 (in), L7 A1 (in), L8 A5 (in), L9 ~{ALERT} (out), M1 VDD (power), M2 A8 (in), M3 A2 (in), M7 A9 (in), M8 A7 (in), M9 VPP (power), N1 VSS (power), N2 A11 (in), N3 PAR (in), N7 A17/NC (in), N8 A13 (in), N9 VDD (power)

## MT40A1G8WE
designator IC?
+1.2V, 8Gb (1Gig x 8) DDR4 SDRAM
pins: A1 VDD (power), A2 VSSQ (power), A3 NF/TDQS_c (out), A7 NF/~{DM}/~{DBI}/TDQS_t (out), A8 VSSQ (power), A9 VSS (power), B1 VPP (power), B2 VDDQ (power), B3 DQS_c (io), B7 DQ1 (io), B8 VDDQ (power), B9 ZQ (power), C1 VDDQ (power), C2 DQ0 (io), C3 DQS_t (io), C7 VDD (power), C8 VSS (power), C9 VDDQ (power), D1 VSSQ (power), D2 DQ4/NC (io), D3 DQ2 (io), D7 DQ3 (io), D8 DQ5/NC (io), D9 VSSQ (power), E1 VSS (power), E2 VDDQ (power), E3 DQ6/NC (io), E7 DQ7/NC (io), E8 VDDQ (power), E9 VSS (power), F1 VDD (power), F2 C2/ODT1 (in), F3 ODT (in), F7 CK_t (in), F8 CK_c (in), F9 VDD (power), G1 VSS (power), G2 C0/CKE1 (in), G3 CKE (in), G7 ~{CS} (in), G8 C1/~{CS1} (in), G9 RFU/TEN (in), H1 VDD (power), H2 A14/~{WE} (in), H3 ~{ACT} (in), H7 A15/~{CAS} (in), H8 A16/~{RAS} (in), H9 VSS (power), J1 VREFCA (power), J2 BG0 (power), J3 A10/AP (in), J7 A12/~{BC} (in), J8 BG1 (power), J9 VDD (power), K1 VSS (power), K2 BA0 (power), K3 A4 (in), K7 A3 (in), K8 BA1 (power), K9 VSS (power), L1 ~{RESET} (in), L2 A6 (in), L3 A0 (in), L7 A1 (in), L8 A5 (in), L9 ~{ALERT} (out), M1 VDD (power), M2 A8 (in), M3 A2 (in), M7 A9 (in), M8 A7 (in), M9 VPP (power), N1 VSS (power), N2 A11 (in), N3 PAR (in), N7 A17/NC (in), N8 A13 (in), N9 VDD (power)

## MT40A2G8NRE
designator IC?
+1.2V, 16Gb (64 Meg x 8 x 16 Banks x 2 Ranks) TwinDie DDR4 SDRAM
pins: A1 VDD (power), A2 VSSQ (power), A3 NF/TDQS_c (out), A7 NF/~{DM}/~{DBI}/TDQS_t (out), A8 VSSQ (power), A9 VSSQ (power), B1 VPP (power), B2 VDDQ (power), B3 DQS_c (io), B7 DQ1 (io), B8 VDDQ (power), B9 ZQ (power), C1 VDDQ (power), C2 DQ0 (io), C3 DQS_t (io), C7 VDD (power), C8 VSS (power), C9 VDDQ (power), D1 VSSQ (power), D2 DQ4/NC (io), D3 DQ2 (io), D7 DQ3 (io), D8 DQ5/NC (io), D9 VSSQ (power), E1 VSS (power), E2 VDDQ (power), E3 DQ6/NC (io), E7 DQ7/NC (io), E8 VDDQ (power), E9 VSS (power), F1 VDD (power), F2 C2/ODT1 (in), F3 ODT (in), F7 CK_t (in), F8 CK_c (in), F9 VDD (power), G1 VSS (power), G2 C0/CKE1 (in), G3 CKE (in), G7 ~{CS} (in), G8 C1/~{CS1} (in), G9 RFU/TEN (in), H1 VDD (power), H2 A14/~{WE} (in), H3 ~{ACT} (in), H7 A15/~{CAS} (in), H8 A16/~{RAS} (in), H9 VSS (power), J1 VREFCA (power), J2 BG0 (power), J3 A10/AP (in), J7 A12/~{BC} (in), J8 BG1 (power), J9 VDD (power), K1 VSS (power), K2 BA0 (power), K3 A4 (in), K7 A3 (in), K8 BA1 (power), K9 VSS (power), L1 ~{RESET} (in), L2 A6 (in), L3 A0 (in), L7 A1 (in), L8 A5 (in), L9 ~{ALERT} (out), M1 VDD (power), M2 A8 (in), M3 A2 (in), M7 A9 (in), M8 A7 (in), M9 VPP (power), N1 VSS (power), N2 A11 (in), N3 PAR (in), N7 A17/NC (in), N8 A13 (in), N9 VDD (power)

## MT40A256M16GE
designator IC?
+1.2V, 8Gb (512 Meg x 16 x 8 Banks) DDR4 SDRAM
pins: A1 VDDQ (power), A2 VSSQ (power), A3 DQ8 (io), A7 UDQS_c (io), A8 VSSQ (power), A9 VDDQ (power), B1 VPP (power), B2 VSS (power), B3 VDD (power), B7 UDQS_t (io), B8 DQ9 (io), B9 VDD (power), C1 VDDQ (power), C2 DQ12 (io), C3 DQ10 (io), C7 DQ11 (io), C8 DQ13 (io), C9 VSSQ (power), D1 VDD (power), D2 VSSQ (power), D3 DQ14 (io), D7 DQ15 (io), D8 VSSQ (power), D9 VDDQ (power), E1 VSS (power), E2 NF/~{UDM}/~{UDBI} (in), E3 VSSQ (power), E7 NF/~{LDM}/~{LDBI} (in), E8 VSSQ (power), E9 VSS (power), F1 VSSQ (power), F2 VDDQ (power), F3 LDQS_c (io), F7 DQ1 (io), F8 VDDQ (power), F9 ZQ (power), G1 VDDQ (power), G2 DQ0 (io), G3 LDQS_t (io), G7 VDD (power), G8 VSS (power), G9 VDDQ (power), H1 VSSQ (power), H2 DQ4 (io), H3 DQ2 (io), H7 DQ3 (io), H8 DQ5 (io), H9 VSSQ (power), J1 VDD (power), J2 VDDQ (power), J3 DQ6 (io), J7 DQ7 (io), J8 VDDQ (power), J9 VDD (power), K1 VSS (power), K2 CKE (in), K3 ODT (in), K7 CK_t (in), K8 CK_c (in), K9 VSS (power), L1 VDD (power), L2 A14/~{WE} (in), L3 ~{ACT} (in), L7 ~{CS} (in), L8 A16/~{RAS} (in), L9 VDD (power), M1 VREFCA (power), M2 BG0 (in), M3 A10/AP (in), M7 A12/~{BC} (in), M8 A15/~{CAS} (in), M9 VSS (power), N1 VSS (power), N2 BA0 (in), N3 A4 (in), N7 A3 (in), N8 BA1 (in), N9 TEN (in), P1 ~{RESET} (in), P2 A6 (in), P3 A0 (in), P7 A1 (in), P8 A5 (in), P9 ~{ALERT} (out), R1 VDD (power), R2 A8 (in), R3 A2 (in), R7 A9 (in), R8 A7 (in), R9 VPP (power), T1 VSS (power), T2 A11 (in), T3 PAR (in), T7 NC (power), T8 A13 (in), T9 VDD (power)

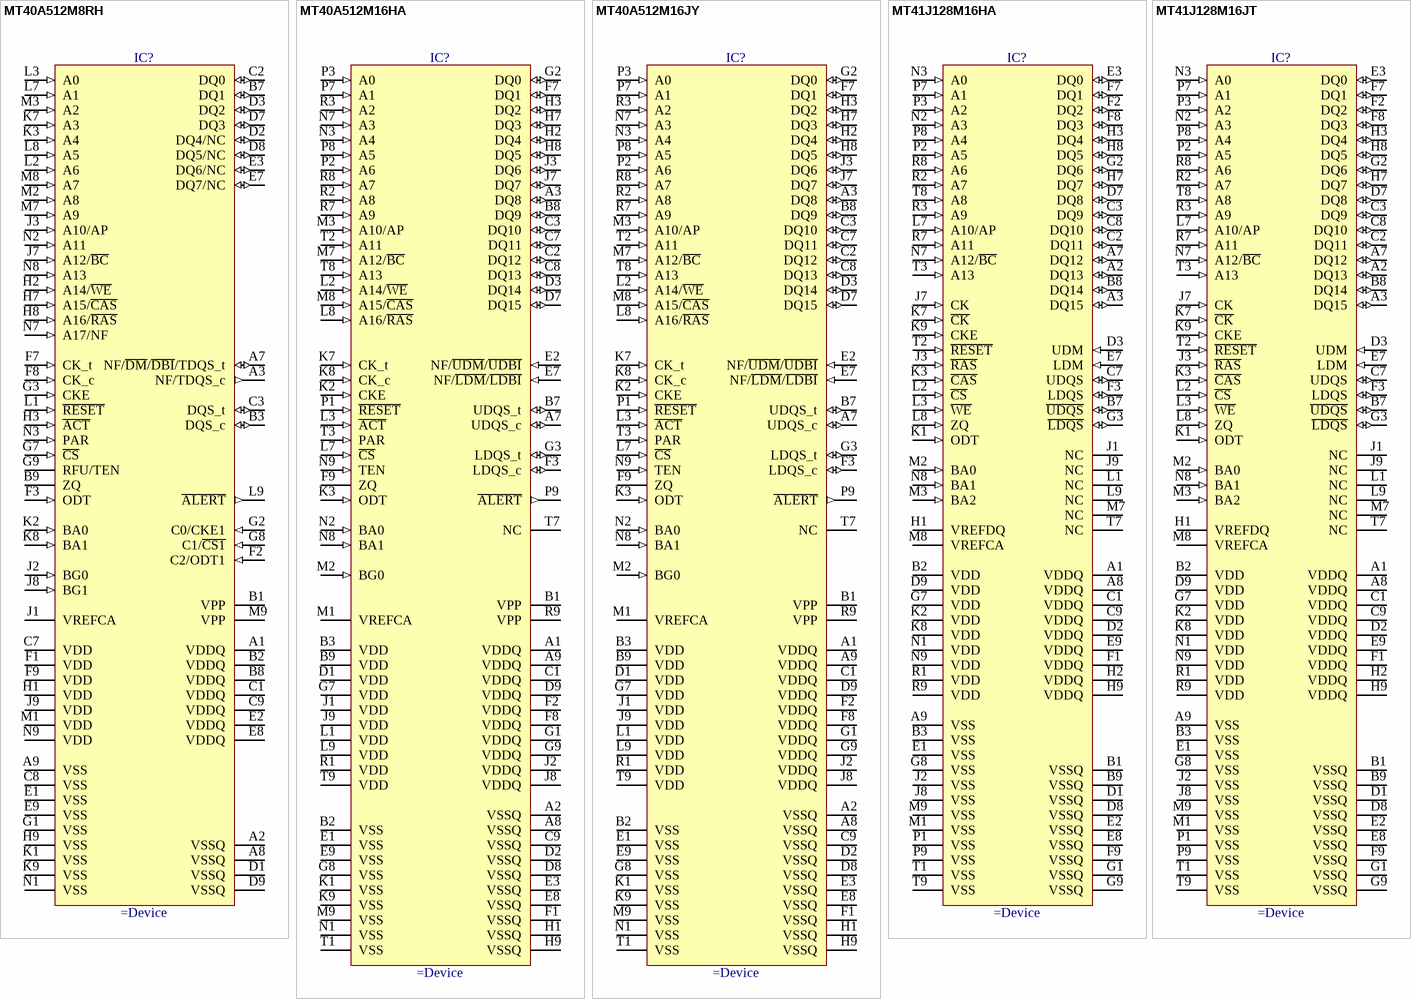
[diagram p107: symbols MT40A512M8RH to MT41J128M16JT]

## MT40A512M8RH
designator IC?
1.2V, 4Gb (512 Meg x 8) DDR4 SDRAM
pins: A1 VDDQ (power), A2 VSSQ (power), A3 NF/TDQS_c (out), A7 NF/~{DM}/~{DBI}/TDQS_t (io), A8 VSSQ (power), A9 VSS (power), B1 VPP (power), B2 VDDQ (power), B3 DQS_c (io), B7 DQ1 (io), B8 VDDQ (power), B9 ZQ, C1 VDDQ (power), C2 DQ0 (io), C3 DQS_t (io), C7 VDD (power), C8 VSS (power), C9 VDDQ (power), D1 VSSQ (power), D2 DQ4/NC (io), D3 DQ2 (io), D7 DQ3 (io), D8 DQ5/NC (io), D9 VSSQ (power), E1 VSS (power), E2 VDDQ (power), E3 DQ6/NC (io), E7 DQ7/NC (io), E8 VDDQ (power), E9 VSS (power), F1 VDD (power), F2 C2/ODT1 (in), F3 ODT (in), F7 CK_t (in), F8 CK_c (in), F9 VDD (power), G1 VSS (power), G2 C0/CKE1 (in), G3 CKE (in), G7 ~{CS} (in), G8 C1/~{CS1} (in), G9 RFU/TEN, H1 VDD (power), H2 A14/~{WE} (in), H3 ~{ACT} (in), H7 A15/~{CAS} (in), H8 A16/~{RAS} (in), H9 VSS (power), J1 VREFCA (power), J2 BG0 (in), J3 A10/AP (in), J7 A12/~{BC} (in), J8 BG1 (in), J9 VDD (power), K1 VSS (power), K2 BA0 (in), K3 A4 (in), K7 A3 (in), K8 BA1 (in), K9 VSS (power), L1 ~{RESET} (in), L2 A6 (in), L3 A0 (in), L7 A1 (in), L8 A5 (in), L9 ~{ALERT} (out), M1 VDD (power), M2 A8 (in), M3 A2 (in), M7 A9 (in), M8 A7 (in), M9 VPP (power), N1 VSS (power), N2 A11 (in), N3 PAR (in), N7 A17/NF (in), N8 A13 (in), N9 VDD (power)

## MT40A512M16HA
designator IC?
+1.2V, 8Gb (512 Meg x 16 x 8 Banks) DDR4 SDRAM
pins: A1 VDDQ (power), A2 VSSQ (power), A3 DQ8 (io), A7 UDQS_c (io), A8 VSSQ (power), A9 VDDQ (power), B1 VPP (power), B2 VSS (power), B3 VDD (power), B7 UDQS_t (io), B8 DQ9 (io), B9 VDD (power), C1 VDDQ (power), C2 DQ12 (io), C3 DQ10 (io), C7 DQ11 (io), C8 DQ13 (io), C9 VSSQ (power), D1 VDD (power), D2 VSSQ (power), D3 DQ14 (io), D7 DQ15 (io), D8 VSSQ (power), D9 VDDQ (power), E1 VSS (power), E2 NF/~{UDM}/~{UDBI} (in), E3 VSSQ (power), E7 NF/~{LDM}/~{LDBI} (in), E8 VSSQ (power), E9 VSS (power), F1 VSSQ (power), F2 VDDQ (power), F3 LDQS_c (io), F7 DQ1 (io), F8 VDDQ (power), F9 ZQ (power), G1 VDDQ (power), G2 DQ0 (io), G3 LDQS_t (io), G7 VDD (power), G8 VSS (power), G9 VDDQ (power), H1 VSSQ (power), H2 DQ4 (io), H3 DQ2 (io), H7 DQ3 (io), H8 DQ5 (io), H9 VSSQ (power), J1 VDD (power), J2 VDDQ (power), J3 DQ6 (io), J7 DQ7 (io), J8 VDDQ (power), J9 VDD (power), K1 VSS (power), K2 CKE (in), K3 ODT (in), K7 CK_t (in), K8 CK_c (in), K9 VSS (power), L1 VDD (power), L2 A14/~{WE} (in), L3 ~{ACT} (in), L7 ~{CS} (in), L8 A16/~{RAS} (in), L9 VDD (power), M1 VREFCA (power), M2 BG0 (in), M3 A10/AP (in), M7 A12/~{BC} (in), M8 A15/~{CAS} (in), M9 VSS (power), N1 VSS (power), N2 BA0 (in), N3 A4 (in), N7 A3 (in), N8 BA1 (in), N9 TEN (in), P1 ~{RESET} (in), P2 A6 (in), P3 A0 (in), P7 A1 (in), P8 A5 (in), P9 ~{ALERT} (out), R1 VDD (power), R2 A8 (in), R3 A2 (in), R7 A9 (in), R8 A7 (in), R9 VPP (power), T1 VSS (power), T2 A11 (in), T3 PAR (in), T7 NC (power), T8 A13 (in), T9 VDD (power)

## MT40A512M16JY
designator IC?
+1.2V, 8Gb (512 Meg x 16 x 8 Banks) DDR4 SDRAM
pins: A1 VDDQ (power), A2 VSSQ (power), A3 DQ8 (io), A7 UDQS_c (io), A8 VSSQ (power), A9 VDDQ (power), B1 VPP (power), B2 VSS (power), B3 VDD (power), B7 UDQS_t (io), B8 DQ9 (io), B9 VDD (power), C1 VDDQ (power), C2 DQ12 (io), C3 DQ10 (io), C7 DQ11 (io), C8 DQ13 (io), C9 VSSQ (power), D1 VDD (power), D2 VSSQ (power), D3 DQ14 (io), D7 DQ15 (io), D8 VSSQ (power), D9 VDDQ (power), E1 VSS (power), E2 NF/~{UDM}/~{UDBI} (in), E3 VSSQ (power), E7 NF/~{LDM}/~{LDBI} (in), E8 VSSQ (power), E9 VSS (power), F1 VSSQ (power), F2 VDDQ (power), F3 LDQS_c (io), F7 DQ1 (io), F8 VDDQ (power), F9 ZQ (power), G1 VDDQ (power), G2 DQ0 (io), G3 LDQS_t (io), G7 VDD (power), G8 VSS (power), G9 VDDQ (power), H1 VSSQ (power), H2 DQ4 (io), H3 DQ2 (io), H7 DQ3 (io), H8 DQ5 (io), H9 VSSQ (power), J1 VDD (power), J2 VDDQ (power), J3 DQ6 (io), J7 DQ7 (io), J8 VDDQ (power), J9 VDD (power), K1 VSS (power), K2 CKE (in), K3 ODT (in), K7 CK_t (in), K8 CK_c (in), K9 VSS (power), L1 VDD (power), L2 A14/~{WE} (in), L3 ~{ACT} (in), L7 ~{CS} (in), L8 A16/~{RAS} (in), L9 VDD (power), M1 VREFCA (power), M2 BG0 (in), M3 A10/AP (in), M7 A12/~{BC} (in), M8 A15/~{CAS} (in), M9 VSS (power), N1 VSS (power), N2 BA0 (in), N3 A4 (in), N7 A3 (in), N8 BA1 (in), N9 TEN (in), P1 ~{RESET} (in), P2 A6 (in), P3 A0 (in), P7 A1 (in), P8 A5 (in), P9 ~{ALERT} (out), R1 VDD (power), R2 A8 (in), R3 A2 (in), R7 A9 (in), R8 A7 (in), R9 VPP (power), T1 VSS (power), T2 A11 (in), T3 PAR (in), T7 NC (power), T8 A13 (in), T9 VDD (power)

## MT41J128M16HA
designator IC?
16 Meg x 16 x 8 Banks DDR3 SDRAM
pins: A1 VDDQ (power), A2 DQ13 (io), A3 DQ15 (io), A7 DQ12 (io), A8 VDDQ (power), A9 VSS (power), B1 VSSQ (power), B2 VDD (power), B3 VSS (power), B7 ~{UDQS} (io), B8 DQ14 (io), B9 VSSQ (power), C1 VDDQ (power), C2 DQ11 (io), C3 DQ9 (io), C7 UDQS (io), C8 DQ10 (io), C9 VDDQ (power), D1 VSSQ (power), D2 VDDQ (power), D3 UDM (in), D7 DQ8 (io), D8 VSSQ (power), D9 VDD (power), E1 VSS (power), E2 VSSQ (power), E3 DQ0 (io), E7 LDM (in), E8 VSSQ (power), E9 VDDQ (power), F1 VDDQ (power), F2 DQ2 (io), F3 LDQS (io), F7 DQ1 (io), F8 DQ3 (io), F9 VSSQ (power), G1 VSSQ (power), G2 DQ6 (io), G3 ~{LDQS} (io), G7 VDD (power), G8 VSS (power), G9 VSSQ (power), H1 VREFDQ (power), H2 VDDQ (power), H3 DQ4 (io), H7 DQ7 (io), H8 DQ5 (io), H9 VDDQ (power), J1 NC, J2 VSS (power), J3 ~{RAS} (in), J7 CK (in), J8 VSS (power), J9 NC, K1 ODT (in), K2 VDD (power), K3 ~{CAS} (in), K7 ~{CK} (in), K8 VDD (power), K9 CKE (in), L1 NC, L2 ~{CS} (in), L3 ~{WE} (in), L7 A10/AP (in), L8 ZQ (in), L9 NC, M1 VSS (power), M2 BA0 (in), M3 BA2 (in), M7 NC, M8 VREFCA (power), M9 VSS (power), N1 VDD (power), N2 A3 (in), N3 A0 (in), N7 A12/~{BC} (in), N8 BA1 (in), N9 VDD (power), P1 VSS (power), P2 A5 (in), P3 A2 (in), P7 A1 (in), P8 A4 (in), P9 VSS (power), R1 VDD (power), R2 A7 (in), R3 A9 (in), R7 A11 (in), R8 A6 (in), R9 VDD (power), T1 VSS (power), T2 ~{RESET} (in), T3 A13 (in), T7 NC, T8 A8 (in), T9 VSS (power)

## MT41J128M16JT
designator IC?
16 Meg x 16 x 8 Banks DDR3 SDRAM
pins: A1 VDDQ (power), A2 DQ13 (io), A3 DQ15 (io), A7 DQ12 (io), A8 VDDQ (power), A9 VSS (power), B1 VSSQ (power), B2 VDD (power), B3 VSS (power), B7 ~{UDQS} (io), B8 DQ14 (io), B9 VSSQ (power), C1 VDDQ (power), C2 DQ11 (io), C3 DQ9 (io), C7 UDQS (io), C8 DQ10 (io), C9 VDDQ (power), D1 VSSQ (power), D2 VDDQ (power), D3 UDM (in), D7 DQ8 (io), D8 VSSQ (power), D9 VDD (power), E1 VSS (power), E2 VSSQ (power), E3 DQ0 (io), E7 LDM (in), E8 VSSQ (power), E9 VDDQ (power), F1 VDDQ (power), F2 DQ2 (io), F3 LDQS (io), F7 DQ1 (io), F8 DQ3 (io), F9 VSSQ (power), G1 VSSQ (power), G2 DQ6 (io), G3 ~{LDQS} (io), G7 VDD (power), G8 VSS (power), G9 VSSQ (power), H1 VREFDQ (power), H2 VDDQ (power), H3 DQ4 (io), H7 DQ7 (io), H8 DQ5 (io), H9 VDDQ (power), J1 NC, J2 VSS (power), J3 ~{RAS} (in), J7 CK (in), J8 VSS (power), J9 NC, K1 ODT (in), K2 VDD (power), K3 ~{CAS} (in), K7 ~{CK} (in), K8 VDD (power), K9 CKE (in), L1 NC, L2 ~{CS} (in), L3 ~{WE} (in), L7 A10/AP (in), L8 ZQ (in), L9 NC, M1 VSS (power), M2 BA0 (in), M3 BA2 (in), M7 NC, M8 VREFCA (power), M9 VSS (power), N1 VDD (power), N2 A3 (in), N3 A0 (in), N7 A12/~{BC} (in), N8 BA1 (in), N9 VDD (power), P1 VSS (power), P2 A5 (in), P3 A2 (in), P7 A1 (in), P8 A4 (in), P9 VSS (power), R1 VDD (power), R2 A7 (in), R3 A9 (in), R7 A11 (in), R8 A6 (in), R9 VDD (power), T1 VSS (power), T2 ~{RESET} (in), T3 A13 (in), T7 NC, T8 A8 (in), T9 VSS (power)

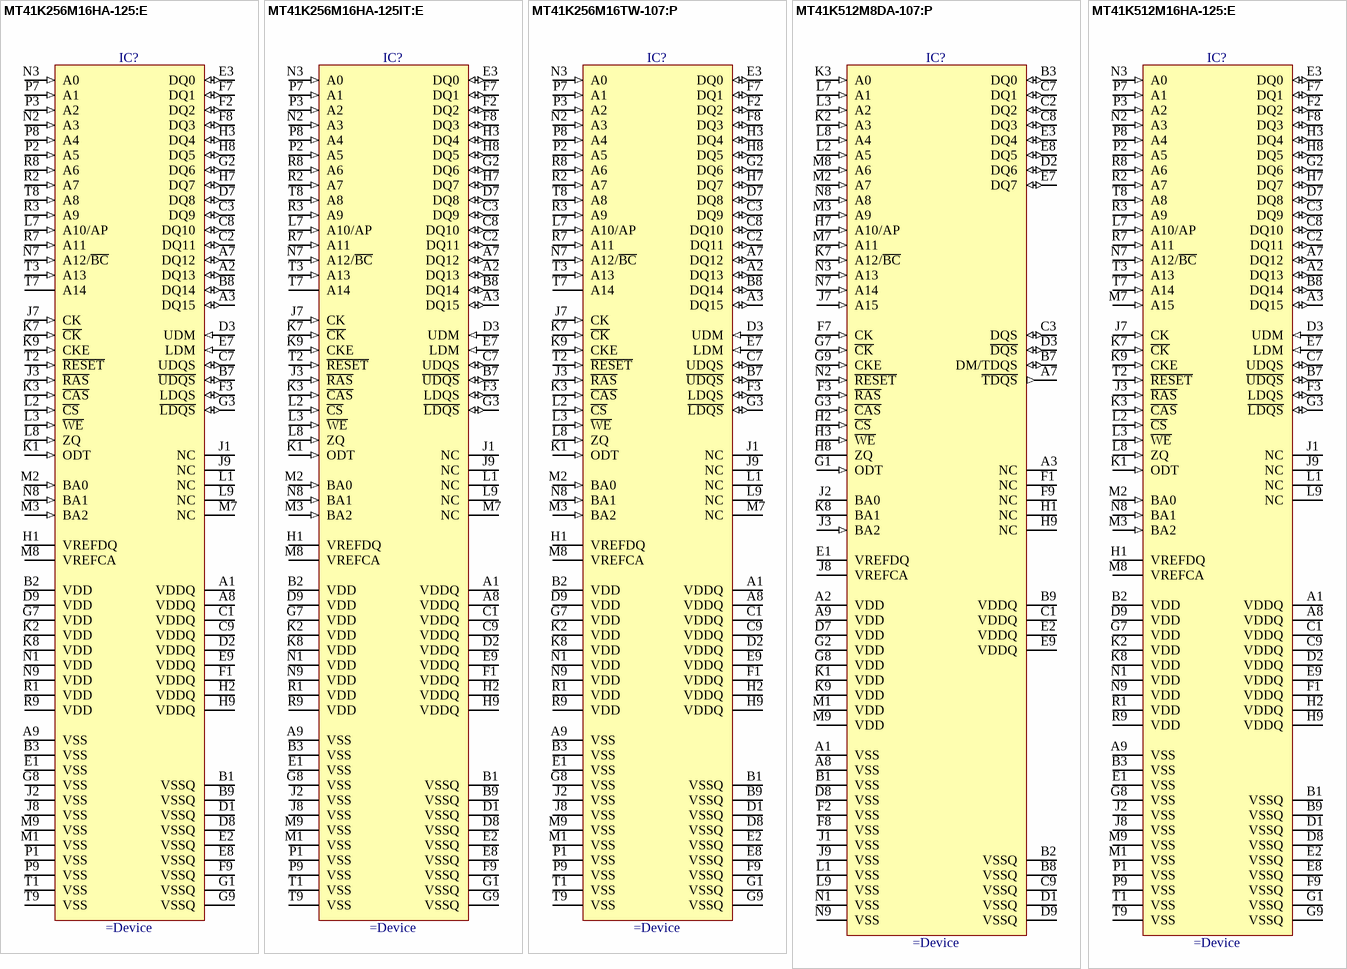
[diagram p108: symbols MT41K256M16HA-125:E to MT41K512M16HA-125:E]

## MT41K256M16HA-125:E
designator IC?
32 Meg x 16 x 8 Banks DDR3L SDRAM
pins: A1 VDDQ (power), A2 DQ13 (io), A3 DQ15 (io), A7 DQ12 (io), A8 VDDQ (power), A9 VSS (power), B1 VSSQ (power), B2 VDD (power), B3 VSS (power), B7 ~{UDQS} (io), B8 DQ14 (io), B9 VSSQ (power), C1 VDDQ (power), C2 DQ11 (io), C3 DQ9 (io), C7 UDQS (io), C8 DQ10 (io), C9 VDDQ (power), D1 VSSQ (power), D2 VDDQ (power), D3 UDM (in), D7 DQ8 (io), D8 VSSQ (power), D9 VDD (power), E1 VSS (power), E2 VSSQ (power), E3 DQ0 (io), E7 LDM (in), E8 VSSQ (power), E9 VDDQ (power), F1 VDDQ (power), F2 DQ2 (io), F3 LDQS (io), F7 DQ1 (io), F8 DQ3 (io), F9 VSSQ (power), G1 VSSQ (power), G2 DQ6 (io), G3 ~{LDQS} (io), G7 VDD (power), G8 VSS (power), G9 VSSQ (power), H1 VREFDQ (power), H2 VDDQ (power), H3 DQ4 (io), H7 DQ7 (io), H8 DQ5 (io), H9 VDDQ (power), J1 NC, J2 VSS (power), J3 ~{RAS} (in), J7 CK (in), J8 VSS (power), J9 NC, K1 ODT (in), K2 VDD (power), K3 ~{CAS} (in), K7 ~{CK} (in), K8 VDD (power), K9 CKE (in), L1 NC, L2 ~{CS} (in), L3 ~{WE} (in), L7 A10/AP (in), L8 ZQ (in), L9 NC, M1 VSS (power), M2 BA0 (in), M3 BA2 (in), M7 NC, M8 VREFCA (power), M9 VSS (power), N1 VDD (power), N2 A3 (in), N3 A0 (in), N7 A12/~{BC} (in), N8 BA1 (in), N9 VDD (power), P1 VSS (power), P2 A5 (in), P3 A2 (in), P7 A1 (in), P8 A4 (in), P9 VSS (power), R1 VDD (power), R2 A7 (in), R3 A9 (in), R7 A11 (in), R8 A6 (in), R9 VDD (power), T1 VSS (power), T2 ~{RESET} (in), T3 A13 (in), T7 A14, T8 A8 (in), T9 VSS (power)

## MT41K256M16HA-125IT:E
designator IC?
32 Meg x 16 x 8 Banks DDR3L SDRAM
pins: A1 VDDQ (power), A2 DQ13 (io), A3 DQ15 (io), A7 DQ12 (io), A8 VDDQ (power), A9 VSS (power), B1 VSSQ (power), B2 VDD (power), B3 VSS (power), B7 ~{UDQS} (io), B8 DQ14 (io), B9 VSSQ (power), C1 VDDQ (power), C2 DQ11 (io), C3 DQ9 (io), C7 UDQS (io), C8 DQ10 (io), C9 VDDQ (power), D1 VSSQ (power), D2 VDDQ (power), D3 UDM (in), D7 DQ8 (io), D8 VSSQ (power), D9 VDD (power), E1 VSS (power), E2 VSSQ (power), E3 DQ0 (io), E7 LDM (in), E8 VSSQ (power), E9 VDDQ (power), F1 VDDQ (power), F2 DQ2 (io), F3 LDQS (io), F7 DQ1 (io), F8 DQ3 (io), F9 VSSQ (power), G1 VSSQ (power), G2 DQ6 (io), G3 ~{LDQS} (io), G7 VDD (power), G8 VSS (power), G9 VSSQ (power), H1 VREFDQ (power), H2 VDDQ (power), H3 DQ4 (io), H7 DQ7 (io), H8 DQ5 (io), H9 VDDQ (power), J1 NC, J2 VSS (power), J3 ~{RAS} (in), J7 CK (in), J8 VSS (power), J9 NC, K1 ODT (in), K2 VDD (power), K3 ~{CAS} (in), K7 ~{CK} (in), K8 VDD (power), K9 CKE (in), L1 NC, L2 ~{CS} (in), L3 ~{WE} (in), L7 A10/AP (in), L8 ZQ (in), L9 NC, M1 VSS (power), M2 BA0 (in), M3 BA2 (in), M7 NC, M8 VREFCA (power), M9 VSS (power), N1 VDD (power), N2 A3 (in), N3 A0 (in), N7 A12/~{BC} (in), N8 BA1 (in), N9 VDD (power), P1 VSS (power), P2 A5 (in), P3 A2 (in), P7 A1 (in), P8 A4 (in), P9 VSS (power), R1 VDD (power), R2 A7 (in), R3 A9 (in), R7 A11 (in), R8 A6 (in), R9 VDD (power), T1 VSS (power), T2 ~{RESET} (in), T3 A13 (in), T7 A14, T8 A8 (in), T9 VSS (power)

## MT41K256M16TW-107:P
designator IC?
32 Meg x 16 x 8 Banks DDR3L SDRAM
pins: A1 VDDQ (power), A2 DQ13 (io), A3 DQ15 (io), A7 DQ12 (io), A8 VDDQ (power), A9 VSS (power), B1 VSSQ (power), B2 VDD (power), B3 VSS (power), B7 ~{UDQS} (io), B8 DQ14 (io), B9 VSSQ (power), C1 VDDQ (power), C2 DQ11 (io), C3 DQ9 (io), C7 UDQS (io), C8 DQ10 (io), C9 VDDQ (power), D1 VSSQ (power), D2 VDDQ (power), D3 UDM (in), D7 DQ8 (io), D8 VSSQ (power), D9 VDD (power), E1 VSS (power), E2 VSSQ (power), E3 DQ0 (io), E7 LDM (in), E8 VSSQ (power), E9 VDDQ (power), F1 VDDQ (power), F2 DQ2 (io), F3 LDQS (io), F7 DQ1 (io), F8 DQ3 (io), F9 VSSQ (power), G1 VSSQ (power), G2 DQ6 (io), G3 ~{LDQS} (io), G7 VDD (power), G8 VSS (power), G9 VSSQ (power), H1 VREFDQ (power), H2 VDDQ (power), H3 DQ4 (io), H7 DQ7 (io), H8 DQ5 (io), H9 VDDQ (power), J1 NC, J2 VSS (power), J3 ~{RAS} (in), J7 CK (in), J8 VSS (power), J9 NC, K1 ODT (in), K2 VDD (power), K3 ~{CAS} (in), K7 ~{CK} (in), K8 VDD (power), K9 CKE (in), L1 NC, L2 ~{CS} (in), L3 ~{WE} (in), L7 A10/AP (in), L8 ZQ (in), L9 NC, M1 VSS (power), M2 BA0 (in), M3 BA2 (in), M7 NC, M8 VREFCA (power), M9 VSS (power), N1 VDD (power), N2 A3 (in), N3 A0 (in), N7 A12/~{BC} (in), N8 BA1 (in), N9 VDD (power), P1 VSS (power), P2 A5 (in), P3 A2 (in), P7 A1 (in), P8 A4 (in), P9 VSS (power), R1 VDD (power), R2 A7 (in), R3 A9 (in), R7 A11 (in), R8 A6 (in), R9 VDD (power), T1 VSS (power), T2 ~{RESET} (in), T3 A13 (in), T7 A14, T8 A8 (in), T9 VSS (power)

## MT41K512M8DA-107:P
designator IC?
1.35V, 4Gb (512 Meg x 8) DDR3L SDRAM
pins: A1 VSS (power), A2 VDD (power), A3 NC, A7 ~{TDQS} (out), A8 VSS (power), A9 VDD (power), B1 VSS (power), B2 VSSQ (power), B3 DQ0 (io), B7 DM/TDQS (io), B8 VSSQ (power), B9 VDDQ (power), C1 VDDQ (power), C2 DQ2 (io), C3 DQS (io), C7 DQ1 (io), C8 DQ3 (io), C9 VSSQ (power), D1 VSSQ (power), D2 DQ6 (io), D3 ~{DQS} (io), D7 VDD (power), D8 VSS (power), D9 VSSQ (power), E1 VREFDQ (power), E2 VDDQ (power), E3 DQ4 (io), E7 DQ7 (io), E8 DQ5 (io), E9 VDDQ (power), F1 NC, F2 VSS (power), F3 ~{RAS} (in), F7 CK (in), F8 VSS (power), F9 NC, G1 ODT (in), G2 VDD (power), G3 ~{CAS} (in), G7 ~{CK} (in), G8 VDD (power), G9 CKE (in), H1 NC, H2 ~{CS} (in), H3 ~{WE} (in), H7 A10/AP (in), H8 ZQ, H9 NC, J1 VSS (power), J2 BA0 (power), J3 BA2 (in), J7 A15 (in), J8 VREFCA (power), J9 VSS (power), K1 VDD (power), K2 A3 (in), K3 A0 (in), K7 A12/~{BC} (in), K8 BA1 (power), K9 VDD (power), L1 VSS (power), L2 A5 (in), L3 A2 (in), L7 A1 (in), L8 A4 (in), L9 VSS (power), M1 VDD (power), M2 A7 (in), M3 A9 (in), M7 A11 (in), M8 A6 (in), M9 VDD (power), N1 VSS (power), N2 ~{RESET} (in), N3 A13 (in), N7 A14 (in), N8 A8 (in), N9 VSS (power)

## MT41K512M16HA-125:E
designator IC?
64 Meg x 16 x 8 Banks DDR3L SDRAM
pins: A1 VDDQ (power), A2 DQ13 (io), A3 DQ15 (io), A7 DQ12 (io), A8 VDDQ (power), A9 VSS (power), B1 VSSQ (power), B2 VDD (power), B3 VSS (power), B7 ~{UDQS} (io), B8 DQ14 (io), B9 VSSQ (power), C1 VDDQ (power), C2 DQ11 (io), C3 DQ9 (io), C7 UDQS (io), C8 DQ10 (io), C9 VDDQ (power), D1 VSSQ (power), D2 VDDQ (power), D3 UDM (in), D7 DQ8 (io), D8 VSSQ (power), D9 VDD (power), E1 VSS (power), E2 VSSQ (power), E3 DQ0 (io), E7 LDM (in), E8 VSSQ (power), E9 VDDQ (power), F1 VDDQ (power), F2 DQ2 (io), F3 LDQS (io), F7 DQ1 (io), F8 DQ3 (io), F9 VSSQ (power), G1 VSSQ (power), G2 DQ6 (io), G3 ~{LDQS} (io), G7 VDD (power), G8 VSS (power), G9 VSSQ (power), H1 VREFDQ (power), H2 VDDQ (power), H3 DQ4 (io), H7 DQ7 (io), H8 DQ5 (io), H9 VDDQ (power), J1 NC, J2 VSS (power), J3 ~{RAS} (in), J7 CK (in), J8 VSS (power), J9 NC, K1 ODT (in), K2 VDD (power), K3 ~{CAS} (in), K7 ~{CK} (in), K8 VDD (power), K9 CKE (in), L1 NC, L2 ~{CS} (in), L3 ~{WE} (in), L7 A10/AP (in), L8 ZQ (in), L9 NC, M1 VSS (power), M2 BA0 (in), M3 BA2 (in), M7 A15 (in), M8 VREFCA (power), M9 VSS (power), N1 VDD (power), N2 A3 (in), N3 A0 (in), N7 A12/~{BC} (in), N8 BA1 (in), N9 VDD (power), P1 VSS (power), P2 A5 (in), P3 A2 (in), P7 A1 (in), P8 A4 (in), P9 VSS (power), R1 VDD (power), R2 A7 (in), R3 A9 (in), R7 A11 (in), R8 A6 (in), R9 VDD (power), T1 VSS (power), T2 ~{RESET} (in), T3 A13 (in), T7 A14 (in), T8 A8 (in), T9 VSS (power)

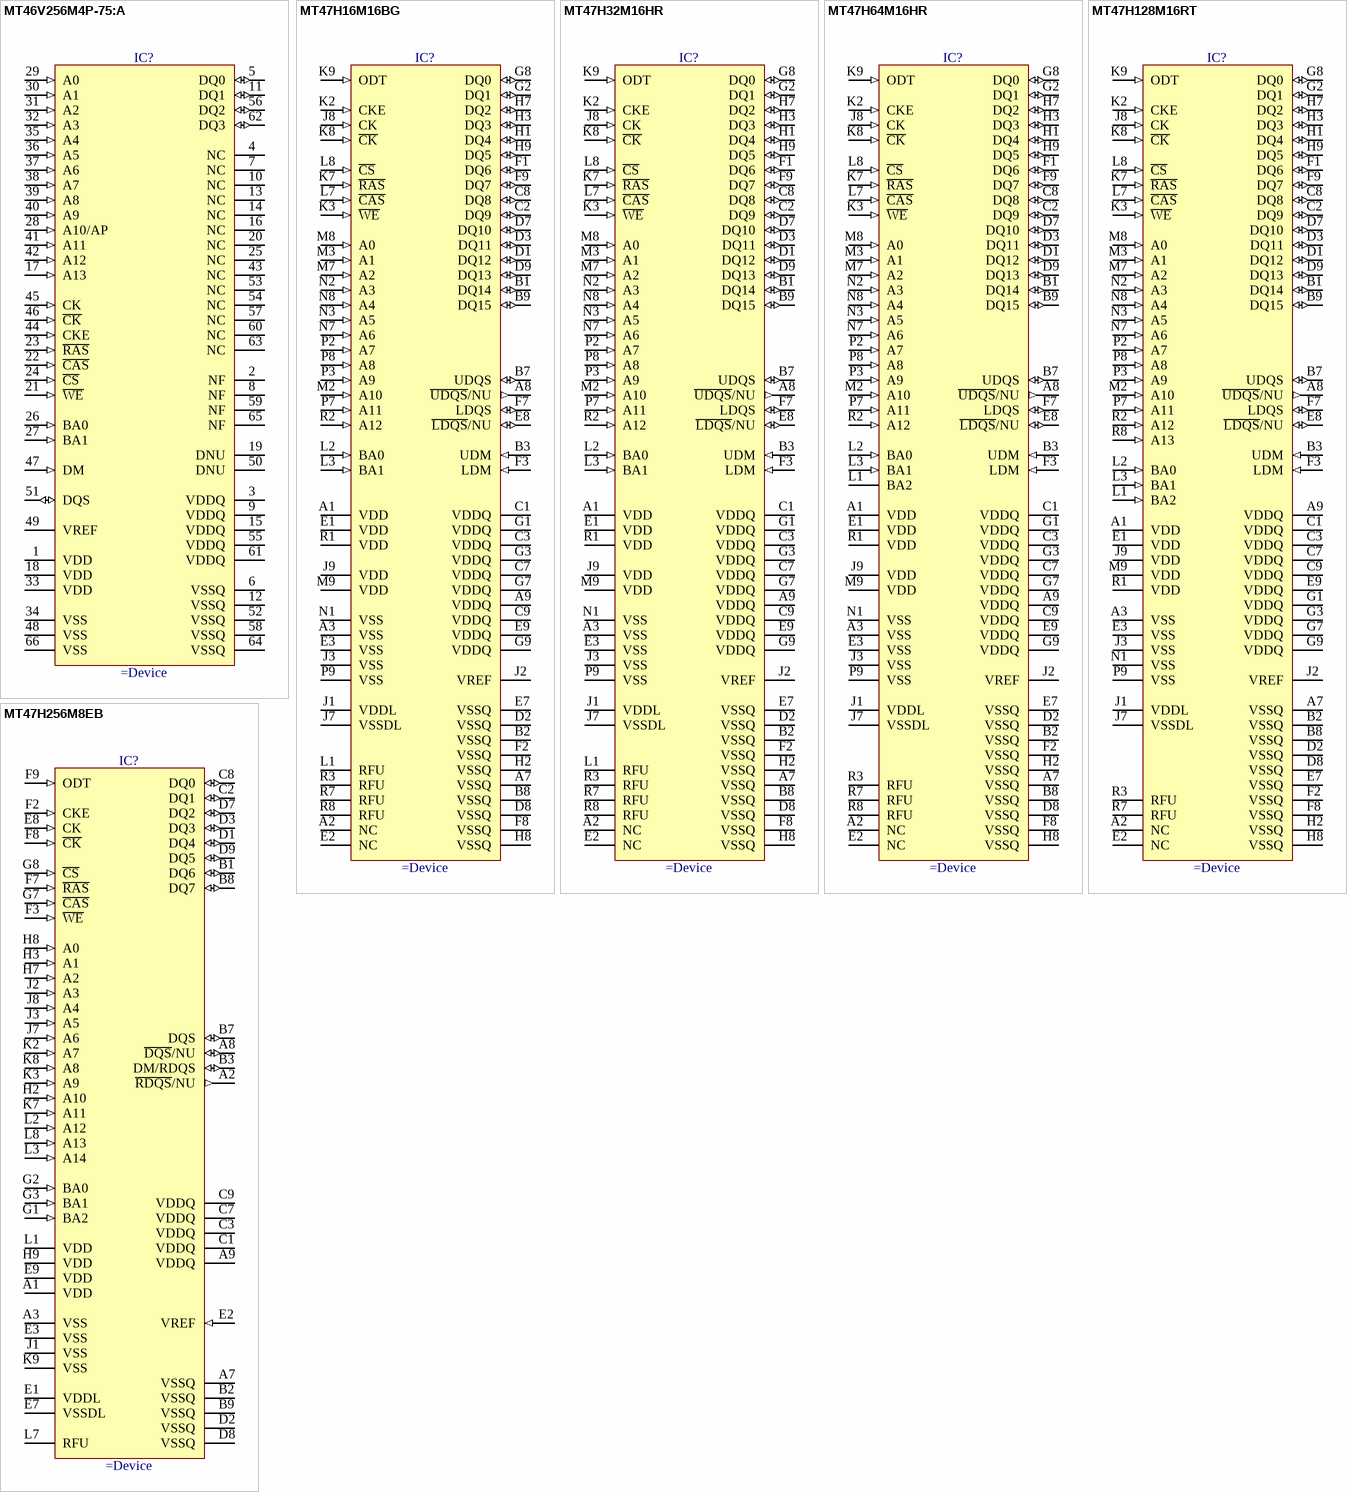
[diagram p109: symbols MT46V256M4P-75:A to MT47H256M8EB]

## MT46V256M4P-75:A
designator IC?
2.5V, 1Gb (256M x 4) DDR SDRAM
pins: 1 VDD (power), 2 NF, 3 VDDQ (power), 4 NC, 5 DQ0 (io), 6 VSSQ (power), 7 NC, 8 NF, 9 VDDQ (power), 10 NC, 11 DQ1 (io), 12 VSSQ (power), 13 NC, 14 NC, 15 VDDQ (power), 16 NC, 17 A13 (in), 18 VDD (power), 19 DNU, 20 NC, 21 ~{WE} (in), 22 ~{CAS} (in), 23 ~{RAS} (in), 24 ~{CS} (in), 25 NC, 26 BA0 (in), 27 BA1 (in), 28 A10/AP (in), 29 A0 (in), 30 A1 (in), 31 A2 (in), 32 A3 (in), 33 VDD (power), 34 VSS (power), 35 A4 (in), 36 A5 (in), 37 A6 (in), 38 A7 (in), 39 A8 (in), 40 A9 (in), 41 A11 (in), 42 A12 (in), 43 NC, 44 CKE (in), 45 CK (in), 46 ~{CK} (in), 47 DM (in), 48 VSS (power), 49 VREF (power), 50 DNU, 51 DQS (io), 52 VSSQ (power), 53 NC, 54 NC, 55 VDDQ (power), 56 DQ2 (io), 57 NC, 58 VSSQ (power), 59 NF, 60 NC, 61 VDDQ (power), 62 DQ3 (io), 63 NC, 64 VSSQ (power), 65 NF, 66 VSS (power)

## MT47H16M16BG
designator IC?
DDR2 SDRAM 4 Meg x 16 x 4 Banks
pins: A1 VDD (power), A2 NC, A3 VSS (power), A7 VSSQ (power), A8 ~{UDQS}/NU (out), A9 VDDQ (power), B1 DQ14 (io), B2 VSSQ (power), B3 UDM (in), B7 UDQS (io), B8 VSSQ (power), B9 DQ15 (io), C1 VDDQ (power), C2 DQ9 (io), C3 VDDQ (power), C7 VDDQ (power), C8 DQ8 (io), C9 VDDQ (power), D1 DQ12 (io), D2 VSSQ (power), D3 DQ11 (io), D7 DQ10 (io), D8 VSSQ (power), D9 DQ13 (io), E1 VDD (power), E2 NC, E3 VSS (power), E7 VSSQ (power), E8 ~{LDQS}/NU (io), E9 VDDQ (power), F1 DQ6 (io), F2 VSSQ (power), F3 LDM (in), F7 LDQS (io), F8 VSSQ (power), F9 DQ7 (io), G1 VDDQ (power), G2 DQ1 (io), G3 VDDQ (power), G7 VDDQ (power), G8 DQ0 (io), G9 VDDQ (power), H1 DQ4 (io), H2 VSSQ (power), H3 DQ3 (io), H7 DQ2 (io), H8 VSSQ (power), H9 DQ5 (io), J1 VDDL (power), J2 VREF (power), J3 VSS (power), J7 VSSDL (power), J8 CK (in), J9 VDD (power), K2 CKE (in), K3 ~{WE} (in), K7 ~{RAS} (in), K8 ~{CK} (in), K9 ODT (in), L1 RFU, L2 BA0 (in), L3 BA1 (in), L7 ~{CAS} (in), L8 ~{CS} (in), M2 A10 (in), M3 A1 (in), M7 A2 (in), M8 A0 (in), M9 VDD (power), N1 VSS (power), N2 A3 (in), N3 A5 (in), N7 A6 (in), N8 A4 (in), P2 A7 (in), P3 A9 (in), P7 A11 (in), P8 A8 (in), P9 VSS (power), R1 VDD (power), R2 A12 (in), R3 RFU, R7 RFU, R8 RFU

## MT47H32M16HR
designator IC?
DDR2 SDRAM 512M (32 x 16)
pins: A1 VDD (power), A2 NC, A3 VSS (power), A7 VSSQ (power), A8 ~{UDQS}/NU (out), A9 VDDQ (power), B1 DQ14 (io), B2 VSSQ (power), B3 UDM (in), B7 UDQS (io), B8 VSSQ (power), B9 DQ15 (io), C1 VDDQ (power), C2 DQ9 (io), C3 VDDQ (power), C7 VDDQ (power), C8 DQ8 (io), C9 VDDQ (power), D1 DQ12 (io), D2 VSSQ (power), D3 DQ11 (io), D7 DQ10 (io), D8 VSSQ (power), D9 DQ13 (io), E1 VDD (power), E2 NC, E3 VSS (power), E7 VSSQ (power), E8 ~{LDQS}/NU (io), E9 VDDQ (power), F1 DQ6 (io), F2 VSSQ (power), F3 LDM (in), F7 LDQS (io), F8 VSSQ (power), F9 DQ7 (io), G1 VDDQ (power), G2 DQ1 (io), G3 VDDQ (power), G7 VDDQ (power), G8 DQ0 (io), G9 VDDQ (power), H1 DQ4 (io), H2 VSSQ (power), H3 DQ3 (io), H7 DQ2 (io), H8 VSSQ (power), H9 DQ5 (io), J1 VDDL (power), J2 VREF (power), J3 VSS (power), J7 VSSDL (power), J8 CK (in), J9 VDD (power), K2 CKE (in), K3 ~{WE} (in), K7 ~{RAS} (in), K8 ~{CK} (in), K9 ODT (in), L1 RFU, L2 BA0 (in), L3 BA1 (in), L7 ~{CAS} (in), L8 ~{CS} (in), M2 A10 (in), M3 A1 (in), M7 A2 (in), M8 A0 (in), M9 VDD (power), N1 VSS (power), N2 A3 (in), N3 A5 (in), N7 A6 (in), N8 A4 (in), P2 A7 (in), P3 A9 (in), P7 A11 (in), P8 A8 (in), P9 VSS (power), R1 VDD (power), R2 A12 (in), R3 RFU, R7 RFU, R8 RFU

## MT47H64M16HR
designator IC?
DDR2 SDRAM 64 Meg x 16 x 8 Banks
pins: A1 VDD (power), A2 NC, A3 VSS (power), A7 VSSQ (power), A8 ~{UDQS}/NU (out), A9 VDDQ (power), B1 DQ14 (io), B2 VSSQ (power), B3 UDM (in), B7 UDQS (io), B8 VSSQ (power), B9 DQ15 (io), C1 VDDQ (power), C2 DQ9 (io), C3 VDDQ (power), C7 VDDQ (power), C8 DQ8 (io), C9 VDDQ (power), D1 DQ12 (io), D2 VSSQ (power), D3 DQ11 (io), D7 DQ10 (io), D8 VSSQ (power), D9 DQ13 (io), E1 VDD (power), E2 NC, E3 VSS (power), E7 VSSQ (power), E8 ~{LDQS}/NU (io), E9 VDDQ (power), F1 DQ6 (io), F2 VSSQ (power), F3 LDM (in), F7 LDQS (io), F8 VSSQ (power), F9 DQ7 (io), G1 VDDQ (power), G2 DQ1 (io), G3 VDDQ (power), G7 VDDQ (power), G8 DQ0 (io), G9 VDDQ (power), H1 DQ4 (io), H2 VSSQ (power), H3 DQ3 (io), H7 DQ2 (io), H8 VSSQ (power), H9 DQ5 (io), J1 VDDL (power), J2 VREF (power), J3 VSS (power), J7 VSSDL (power), J8 CK (in), J9 VDD (power), K2 CKE (in), K3 ~{WE} (in), K7 ~{RAS} (in), K8 ~{CK} (in), K9 ODT (in), L1 BA2, L2 BA0 (in), L3 BA1 (in), L7 ~{CAS} (in), L8 ~{CS} (in), M2 A10 (in), M3 A1 (in), M7 A2 (in), M8 A0 (in), M9 VDD (power), N1 VSS (power), N2 A3 (in), N3 A5 (in), N7 A6 (in), N8 A4 (in), P2 A7 (in), P3 A9 (in), P7 A11 (in), P8 A8 (in), P9 VSS (power), R1 VDD (power), R2 A12 (in), R3 RFU, R7 RFU, R8 RFU

## MT47H128M16RT
designator IC?
DDR2 SDRAM 16 Meg x 16 x 8 Banks
pins: A1 VDD (power), A2 NC, A3 VSS (power), A7 VSSQ (power), A8 ~{UDQS}/NU (out), A9 VDDQ (power), B1 DQ14 (io), B2 VSSQ (power), B3 UDM (in), B7 UDQS (io), B8 VSSQ (power), B9 DQ15 (io), C1 VDDQ (power), C2 DQ9 (io), C3 VDDQ (power), C7 VDDQ (power), C8 DQ8 (io), C9 VDDQ (power), D1 DQ12 (io), D2 VSSQ (power), D3 DQ11 (io), D7 DQ10 (io), D8 VSSQ (power), D9 DQ13 (io), E1 VDD (power), E2 NC, E3 VSS (power), E7 VSSQ (power), E8 ~{LDQS}/NU (io), E9 VDDQ (power), F1 DQ6 (io), F2 VSSQ (power), F3 LDM (in), F7 LDQS (io), F8 VSSQ (power), F9 DQ7 (io), G1 VDDQ (power), G2 DQ1 (io), G3 VDDQ (power), G7 VDDQ (power), G8 DQ0 (io), G9 VDDQ (power), H1 DQ4 (io), H2 VSSQ (power), H3 DQ3 (io), H7 DQ2 (io), H8 VSSQ (power), H9 DQ5 (io), J1 VDDL (power), J2 VREF (power), J3 VSS (power), J7 VSSDL (power), J8 CK (in), J9 VDD (power), K2 CKE (in), K3 ~{WE} (in), K7 ~{RAS} (in), K8 ~{CK} (in), K9 ODT (in), L1 BA2 (in), L2 BA0 (in), L3 BA1 (in), L7 ~{CAS} (in), L8 ~{CS} (in), M2 A10 (in), M3 A1 (in), M7 A2 (in), M8 A0 (in), M9 VDD (power), N1 VSS (power), N2 A3 (in), N3 A5 (in), N7 A6 (in), N8 A4 (in), P2 A7 (in), P3 A9 (in), P7 A11 (in), P8 A8 (in), P9 VSS (power), R1 VDD (power), R2 A12 (in), R3 RFU, R7 RFU, R8 A13 (in)